# Altium schematic symbol library ethernet.SchLib: 51 symbols (part 1 of 2)
Pins are listed as number, name and electrical type; pins without a type are passive.

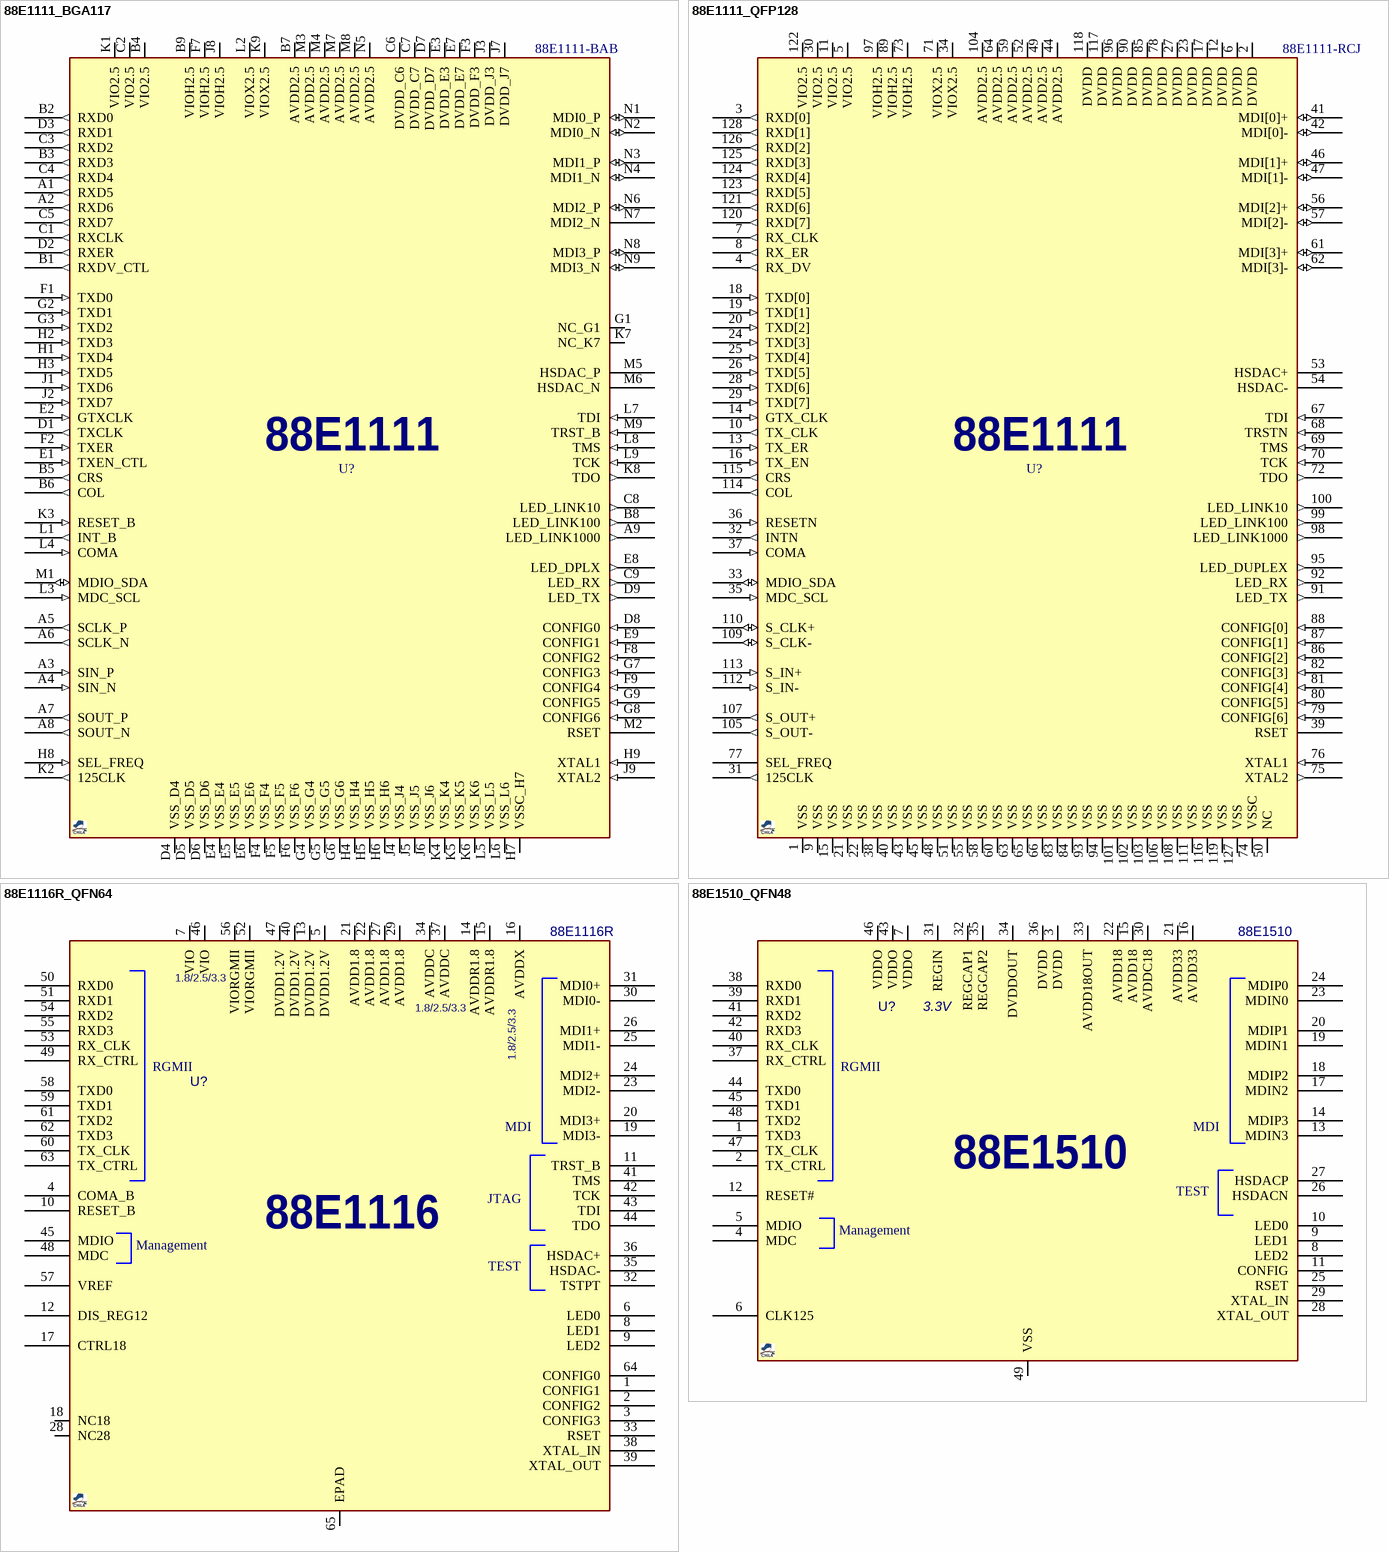
[diagram p0: symbols 88E1111_BGA117 to 88E1510_QFN48]

## 88E1111_BGA117
designator U?, comment 88E1111-BAB
Ethernet Transceiver, Gigabit, 10/100/1000, GMII, RGMII, SGMII; MANF: MARVELL; MANF_P#: 88E1111-B2-BAB1I000, 88E1111-B2-BAB1C000; PARAM2: 2.5VIO, 2.5VDD, 1~1.2DVDD; PARAM: 10/100/1000, GMII, RGMII, SGMII; PRICE: 45$; VALUE: 88E1111-BAB
footprint BGA100_117_10X14 (BGA, 117-Leads, Body 10x14mm, Pitch 1mm)
pins: A1 RXD5 (out), A2 RXD6 (out), A3 SIN_P (in), A4 SIN_N (in), A5 SCLK_P (out), A6 SCLK_N (out), A7 SOUT_P (out), A8 SOUT_N (out), A9 LED_LINK1000 (out), B1 RXDV_CTL (out), B2 RXD0 (out), B3 RXD3 (out), B4 VIO2.5, B5 CRS (out), B6 COL (out), B7 AVDD2.5, B8 LED_LINK100 (out), B9 VIOH2.5, C1 RXCLK (out), C2 VIO2.5, C3 RXD2 (out), C4 RXD4 (out), C5 RXD7 (out), C6 DVDD_C6, C7 DVDD_C7, C8 LED_LINK10 (out), C9 LED_RX (out), D1 TXCLK (out), D2 RXER (out), D3 RXD1 (out), D4 VSS_D4, D5 VSS_D5, D6 VSS_D6, D7 DVDD_D7, D8 CONFIG0 (in), D9 LED_TX (out), E1 TXEN_CTL (in), E2 GTXCLK (in), E3 DVDD_E3, E4 VSS_E4, E5 VSS_E5, E6 VSS_E6, E7 DVDD_E7, E8 LED_DPLX (out), E9 CONFIG1 (in), F1 TXD0 (in), F2 TXER (in), F3 DVDD_F3, F4 VSS_F4, F5 VSS_F5, F6 VSS_F6, F7 VIOH2.5, F8 CONFIG2 (in), F9 CONFIG4 (in), G1 NC_G1, G2 TXD1 (in), G3 TXD2 (in), G4 VSS_G4, G5 VSS_G5, G6 VSS_G6, G7 CONFIG3 (in), G8 CONFIG6 (in), G9 CONFIG5 (in), H1 TXD4 (in), H2 TXD3 (in), H3 TXD5 (in), H4 VSS_H4, H5 VSS_H5, H6 VSS_H6, H7 VSSC_H7, H8 SEL_FREQ (in), H9 XTAL1 (in), J1 TXD6 (in), J2 TXD7 (in), J3 DVDD_J3, J4 VSS_J4, J5 VSS_J5, J6 VSS_J6, J7 DVDD_J7, J8 VIOH2.5, J9 XTAL2 (in), K1 VIO2.5, K2 125CLK (out), K3 RESET_B (in), K4 VSS_K4, K5 VSS_K5, K6 VSS_K6, K7 NC_K7, K8 TDO (out), K9 VIOX2.5, L1 INT_B (out), L2 VIOX2.5, L3 MDC_SCL (in), L4 COMA (in), L5 VSS_L5, L6 VSS_L6, L7 TDI (in), L8 TMS (in), L9 TCK (in), M1 MDIO_SDA (io), M2 RSET, M3 AVDD2.5, M4 AVDD2.5, M5 HSDAC_P, M6 HSDAC_N, M7 AVDD2.5, M8 AVDD2.5, M9 TRST_B (in), N1 MDI0_P (io), N2 MDI0_N (io), N3 MDI1_P (io), N4 MDI1_N (io), N5 AVDD2.5, N6 MDI2_P (io), N7 MDI2_N, N8 MDI3_P (io), N9 MDI3_N (io)
text: 88E1111

## 88E1111_QFP128
designator U?, comment 88E1111-RCJ
Ethernet Transceiver, Gigabit, 10/100/1000, GMII, RGMII, SGMII; MANF: MARVELL; MANF_P#: 88E1111-XX-RCJ; PARAM2: 2.5VIO, 2.5VDD, 1~1.2DVDD; PARAM: 10/100/1000, GMII, RGMII, SGMII; PRICE: 20$; VALUE: 88E1111-RCJ
footprint QFG50_128 (128-Leads, Body 20X14mm, Pitch 0.50mm)
pins: 1 VSS (power), 2 DVDD (power), 3 RXD[0] (out), 4 RX_DV (out), 5 VIO2.5 (power), 6 DVDD (power), 7 RX_CLK (out), 8 RX_ER (out), 9 VSS (power), 10 TX_CLK (out), 11 VIO2.5 (power), 12 DVDD (power), 13 TX_ER (in), 14 GTX_CLK (in), 15 VSS (power), 16 TX_EN (in), 17 DVDD (power), 18 TXD[0] (in), 19 TXD[1] (in), 20 TXD[2] (in), 21 VSS (power), 22 VSS (power), 23 DVDD (power), 24 TXD[3] (in), 25 TXD[4] (in), 26 TXD[5] (in), 27 DVDD (power), 28 TXD[6] (in), 29 TXD[7] (in), 30 VIO2.5 (power), 31 125CLK (out), 32 INTN (out), 33 MDIO_SDA (io), 34 VIOX2.5 (power), 35 MDC_SCL (in), 36 RESETN (in), 37 COMA (in), 38 VSS (power), 39 RSET, 40 VSS (power), 41 MDI[0]+ (io), 42 MDI[0]- (io), 43 VSS (power), 44 AVDD2.5 (power), 45 VSS (power), 46 MDI[1]+ (io), 47 MDI[1]- (io), 48 VSS (power), 49 AVDD2.5 (power), 50 NC, 51 VSS (power), 52 AVDD2.5 (power), 53 HSDAC+, 54 HSDAC-, 55 VSS (power), 56 MDI[2]+ (io), 57 MDI[2]- (io), 58 VSS (power), 59 AVDD2.5 (power), 60 VSS (power), 61 MDI[3]+ (io), 62 MDI[3]- (io), 63 VSS (power), 64 AVDD2.5 (power), 65 VSS (power), 66 VSS (power), 67 TDI (in), 68 TRSTN (in), 69 TMS (in), 70 TCK (in), 71 VIOX2.5 (power), 72 TDO (out), 73 VIOH2.5 (power), 74 VSSC (power), 75 XTAL2 (out), 76 XTAL1 (in), 77 SEL_FREQ, 78 DVDD (power), 79 CONFIG[6] (in), 80 CONFIG[5] (in), 81 CONFIG[4] (in), 82 CONFIG[3] (in), 83 VSS (power), 84 VSS (power), 85 DVDD (power), 86 CONFIG[2] (in), 87 CONFIG[1] (in), 88 CONFIG[0] (in), 89 VIOH2.5 (power), 90 DVDD (power), 91 LED_TX (out), 92 LED_RX (out), 93 VSS (power), 94 VSS (power), 95 LED_DUPLEX (out), 96 DVDD (power), 97 VIOH2.5 (power), 98 LED_LINK1000 (out), 99 LED_LINK100 (out), 100 LED_LINK10 (out), 101 VSS (power), 102 VSS (power), 103 VSS (power), 104 AVDD2.5 (power), 105 S_OUT- (out), 106 VSS (power), 107 S_OUT+ (out), 108 VSS (power), 109 S_CLK- (io), 110 S_CLK+ (io), 111 VSS (power), 112 S_IN- (in), 113 S_IN+ (in), 114 COL (out), 115 CRS (out), 116 VSS (power), 117 DVDD (power), 118 DVDD (power), 119 VSS (power), 120 RXD[7] (out), 121 RXD[6] (out), 122 VIO2.5 (power), 123 RXD[5] (out), 124 RXD[4] (out), 125 RXD[3] (out), 126 RXD[2] (out), 127 VSS (power), 128 RXD[1] (out)
text: 88E1111

## 88E1116R_QFN64
designator U?, comment 88E1116R
Ethernet Transceiver, Gigabit, RGMII; MANF: MARVELL; DESC: DESCRIPTION; DIST#: _; MANF_P#: 88E1116RA0-NNC1C000; PARAM2: 1.8/2.5/3.3VIO,; ASSEMBLY: ASSEMBLY; PRICE: PRICE; VALUE: 88E1116R
footprint QFN50_64T (LFCSP_VQ, MO-220-VMMD-4, MO-220-WNJR-5(JEDEC), RGC S-PQFP-N64 (TI), 9X9mm, 0.5mm)
pins: 1 CONFIG1, 2 CONFIG2, 3 CONFIG3, 4 COMA_B, 5 DVDD1.2V, 6 LED0, 7 VIO, 8 LED1, 9 LED2, 10 RESET_B, 11 TRST_B, 12 DIS_REG12, 13 DVDD1.2V, 14 AVDDR1.8, 15 AVDDR1.8, 16 AVDDX, 17 CTRL18, 18 NC18, 19 MDI3-, 20 MDI3+, 21 AVDD1.8, 22 AVDD1.8, 23 MDI2-, 24 MDI2+, 25 MDI1-, 26 MDI1+, 27 AVDD1.8, 28 NC28, 29 AVDD1.8, 30 MDI0-, 31 MDI0+, 32 TSTPT, 33 RSET, 34 AVDDC, 35 HSDAC-, 36 HSDAC+, 37 AVDDC, 38 XTAL_IN, 39 XTAL_OUT, 40 DVDD1.2V, 41 TMS, 42 TCK, 43 TDI, 44 TDO, 45 MDIO, 46 VIO, 47 DVDD1.2V, 48 MDC, 49 RX_CTRL, 50 RXD0, 51 RXD1, 52 VIORGMII, 53 RX_CLK, 54 RXD2, 55 RXD3, 56 VIORGMII, 57 VREF, 58 TXD0, 59 TXD1, 60 TX_CLK, 61 TXD2, 62 TXD3, 63 TX_CTRL, 64 CONFIG0, 65 EPAD
text: 1.8/2.5/3.3; RGMII; MDI; JTAG; 88E1116; Management; TEST

## 88E1510_QFN48
designator U?, comment 88E1510
Ethernet Transceiver, Gigabit, RGMII; MANF: MARVELL; PARAM: Commercial/Industrial; DESC: DESCRIPTION; DIST#: _; PARAM2: 2.5/3.3VIO,; ASSEMBLY: ASSEMBLY; PRICE: PRICE; MANF_P#: 88E1510; VALUE: 88E1510
footprint QFN50_48T (CP-48 (Analog Device),, MO-220-VKKD-2(JEDEC), RGZ S-PQFP-N48, S-PWQFN-N48(TI), 7X7mm, 0.5mm)
pins: 1 TXD3, 2 TX_CTRL, 3 DVDD, 4 MDC, 5 MDIO, 6 CLK125, 7 VDDO, 8 LED2, 9 LED1, 10 LED0, 11 CONFIG, 12 RESET#, 13 MDIN3, 14 MDIP3, 15 AVDD18, 16 AVDD33, 17 MDIN2, 18 MDIP2, 19 MDIN1, 20 MDIP1, 21 AVDD33, 22 AVDD18, 23 MDIN0, 24 MDIP0, 25 RSET, 26 HSDACN, 27 HSDACP, 28 XTAL_OUT, 29 XTAL_IN, 30 AVDDC18, 31 REGIN, 32 REGCAP1, 33 AVDD18OUT, 34 DVDDOUT, 35 REGCAP2, 36 DVDD, 37 RX_CTRL, 38 RXD0, 39 RXD1, 40 RX_CLK, 41 RXD2, 42 RXD3, 43 VDDO, 44 TXD0, 45 TXD1, 46 VDDO, 47 TX_CLK, 48 TXD2, 49 VSS
text: 3.3V; RGMII; MDI; TEST; Management

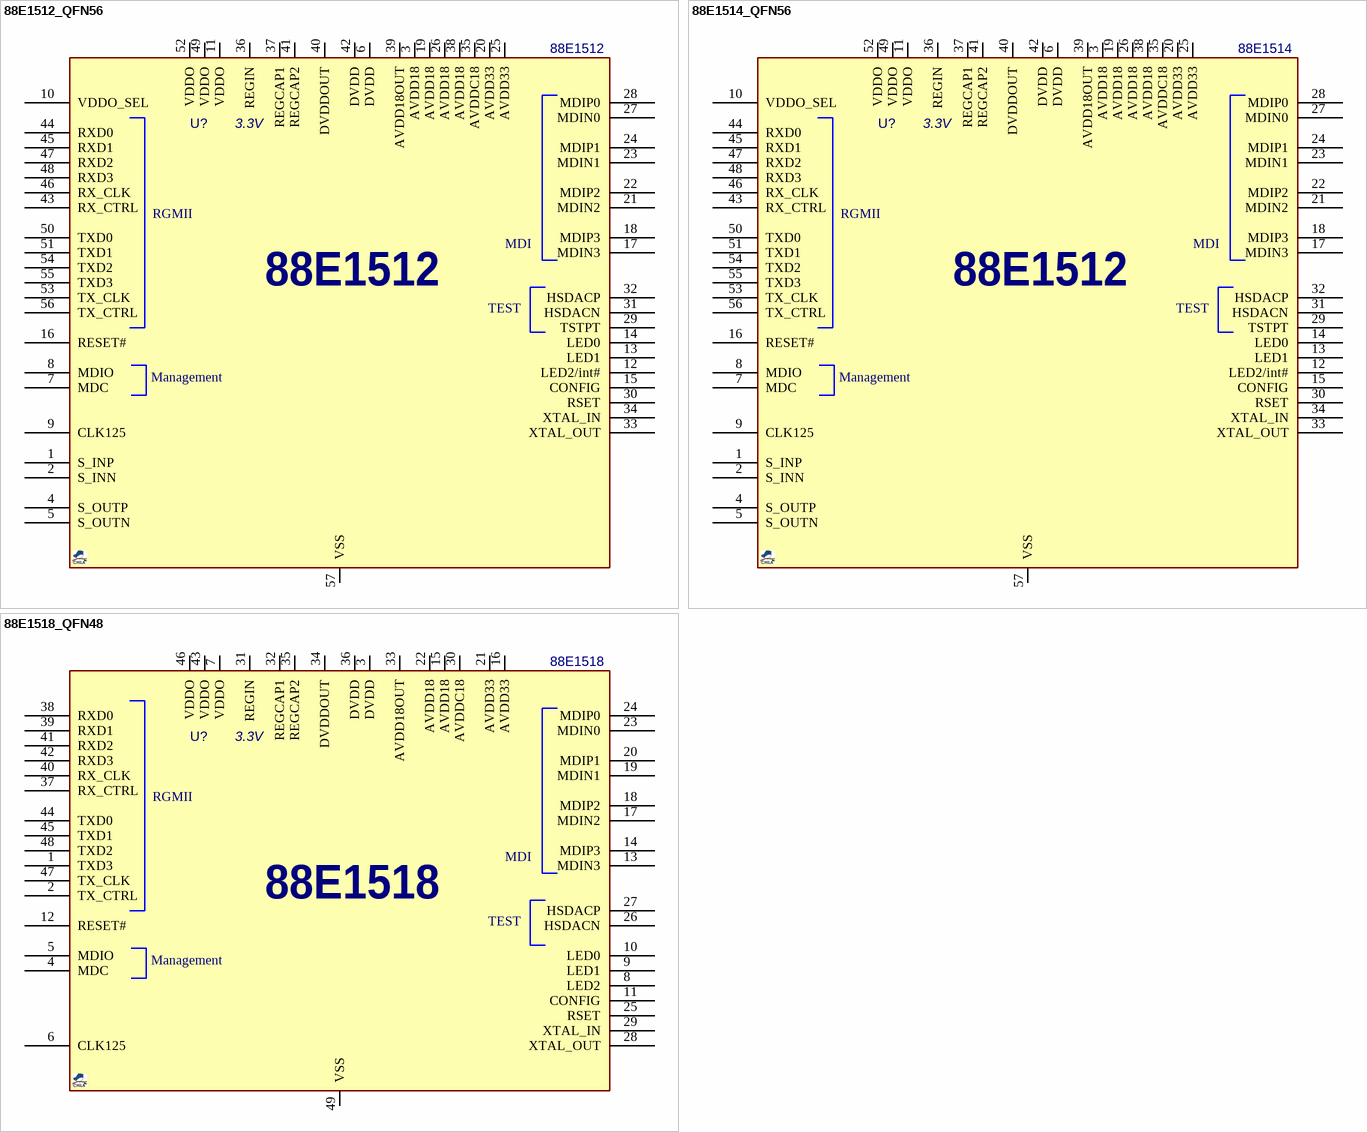
[diagram p1: symbols 88E1512_QFN56 to 88E1518_QFN48]

## 88E1512_QFN56
designator U?, comment 88E1512
Ethernet Transceiver, Gigabit, RGMII/SGMII; MANF: MARVELL; PARAM: Commercial; DESC: DESCRIPTION; DIST#: _; PARAM2: 1.8/2.5/3.3VIO,; ASSEMBLY: ASSEMBLY; PRICE: PRICE; MANF_P#: 88E1512; VALUE: 88E1512
footprint QFN50_56T (QFN56, pitch: 0.5mm, 8x8mm)
pins: 1 S_INP, 2 S_INN, 3 AVDD18, 4 S_OUTP, 5 S_OUTN, 6 DVDD, 7 MDC, 8 MDIO, 9 CLK125, 10 VDDO_SEL, 11 VDDO, 12 LED2/int#, 13 LED1, 14 LED0, 15 CONFIG, 16 RESET#, 17 MDIN3, 18 MDIP3, 19 AVDD18, 20 AVDD33, 21 MDIN2, 22 MDIP2, 23 MDIN1, 24 MDIP1, 25 AVDD33, 26 AVDD18, 27 MDIN0, 28 MDIP0, 29 TSTPT, 30 RSET, 31 HSDACN, 32 HSDACP, 33 XTAL_OUT, 34 XTAL_IN, 35 AVDDC18, 36 REGIN, 37 REGCAP1, 38 AVDD18, 39 AVDD18OUT, 40 DVDDOUT, 41 REGCAP2, 42 DVDD, 43 RX_CTRL, 44 RXD0, 45 RXD1, 46 RX_CLK, 47 RXD2, 48 RXD3, 49 VDDO, 50 TXD0, 51 TXD1, 52 VDDO, 53 TX_CLK, 54 TXD2, 55 TXD3, 56 TX_CTRL, 57 VSS
text: 3.3V; RGMII; MDI; TEST; Management

## 88E1514_QFN56
designator U?, comment 88E1514
Ethernet Transceiver, Gigabit, RGMII/SGMII; MANF: MARVELL; PARAM: Commercial/Industrial; DESC: DESCRIPTION; DIST#: _; PARAM2: 1.8/2.5/3.3VIO,; ASSEMBLY: ASSEMBLY; PRICE: PRICE; MANF_P#: 88E1514; VALUE: 88E1514
footprint QFN50_56T (QFN56, pitch: 0.5mm, 8x8mm)
pins: 1 S_INP, 2 S_INN, 3 AVDD18, 4 S_OUTP, 5 S_OUTN, 6 DVDD, 7 MDC, 8 MDIO, 9 CLK125, 10 VDDO_SEL, 11 VDDO, 12 LED2/int#, 13 LED1, 14 LED0, 15 CONFIG, 16 RESET#, 17 MDIN3, 18 MDIP3, 19 AVDD18, 20 AVDD33, 21 MDIN2, 22 MDIP2, 23 MDIN1, 24 MDIP1, 25 AVDD33, 26 AVDD18, 27 MDIN0, 28 MDIP0, 29 TSTPT, 30 RSET, 31 HSDACN, 32 HSDACP, 33 XTAL_OUT, 34 XTAL_IN, 35 AVDDC18, 36 REGIN, 37 REGCAP1, 38 AVDD18, 39 AVDD18OUT, 40 DVDDOUT, 41 REGCAP2, 42 DVDD, 43 RX_CTRL, 44 RXD0, 45 RXD1, 46 RX_CLK, 47 RXD2, 48 RXD3, 49 VDDO, 50 TXD0, 51 TXD1, 52 VDDO, 53 TX_CLK, 54 TXD2, 55 TXD3, 56 TX_CTRL, 57 VSS
text: 3.3V; RGMII; MDI; 88E1512; TEST; Management

## 88E1518_QFN48
designator U?, comment 88E1518
Ethernet Transceiver, Gigabit, RGMII; MANF: MARVELL; PARAM: Commercial; DESC: DESCRIPTION; DIST#: _; PARAM2: 1.8VIO,; ASSEMBLY: ASSEMBLY; PRICE: PRICE; MANF_P#: 88E1518; VALUE: 88E1518
footprint QFN50_48T (CP-48 (Analog Device),, MO-220-VKKD-2(JEDEC), RGZ S-PQFP-N48, S-PWQFN-N48(TI), 7X7mm, 0.5mm)
pins: 1 TXD3, 2 TX_CTRL, 3 DVDD, 4 MDC, 5 MDIO, 6 CLK125, 7 VDDO, 8 LED2, 9 LED1, 10 LED0, 11 CONFIG, 12 RESET#, 13 MDIN3, 14 MDIP3, 15 AVDD18, 16 AVDD33, 17 MDIN2, 18 MDIP2, 19 MDIN1, 20 MDIP1, 21 AVDD33, 22 AVDD18, 23 MDIN0, 24 MDIP0, 25 RSET, 26 HSDACN, 27 HSDACP, 28 XTAL_OUT, 29 XTAL_IN, 30 AVDDC18, 31 REGIN, 32 REGCAP1, 33 AVDD18OUT, 34 DVDDOUT, 35 REGCAP2, 36 DVDD, 37 RX_CTRL, 38 RXD0, 39 RXD1, 40 RX_CLK, 41 RXD2, 42 RXD3, 43 VDDO, 44 TXD0, 45 TXD1, 46 VDDO, 47 TX_CLK, 48 TXD2, 49 VSS
text: 3.3V; RGMII; MDI; TEST; Management

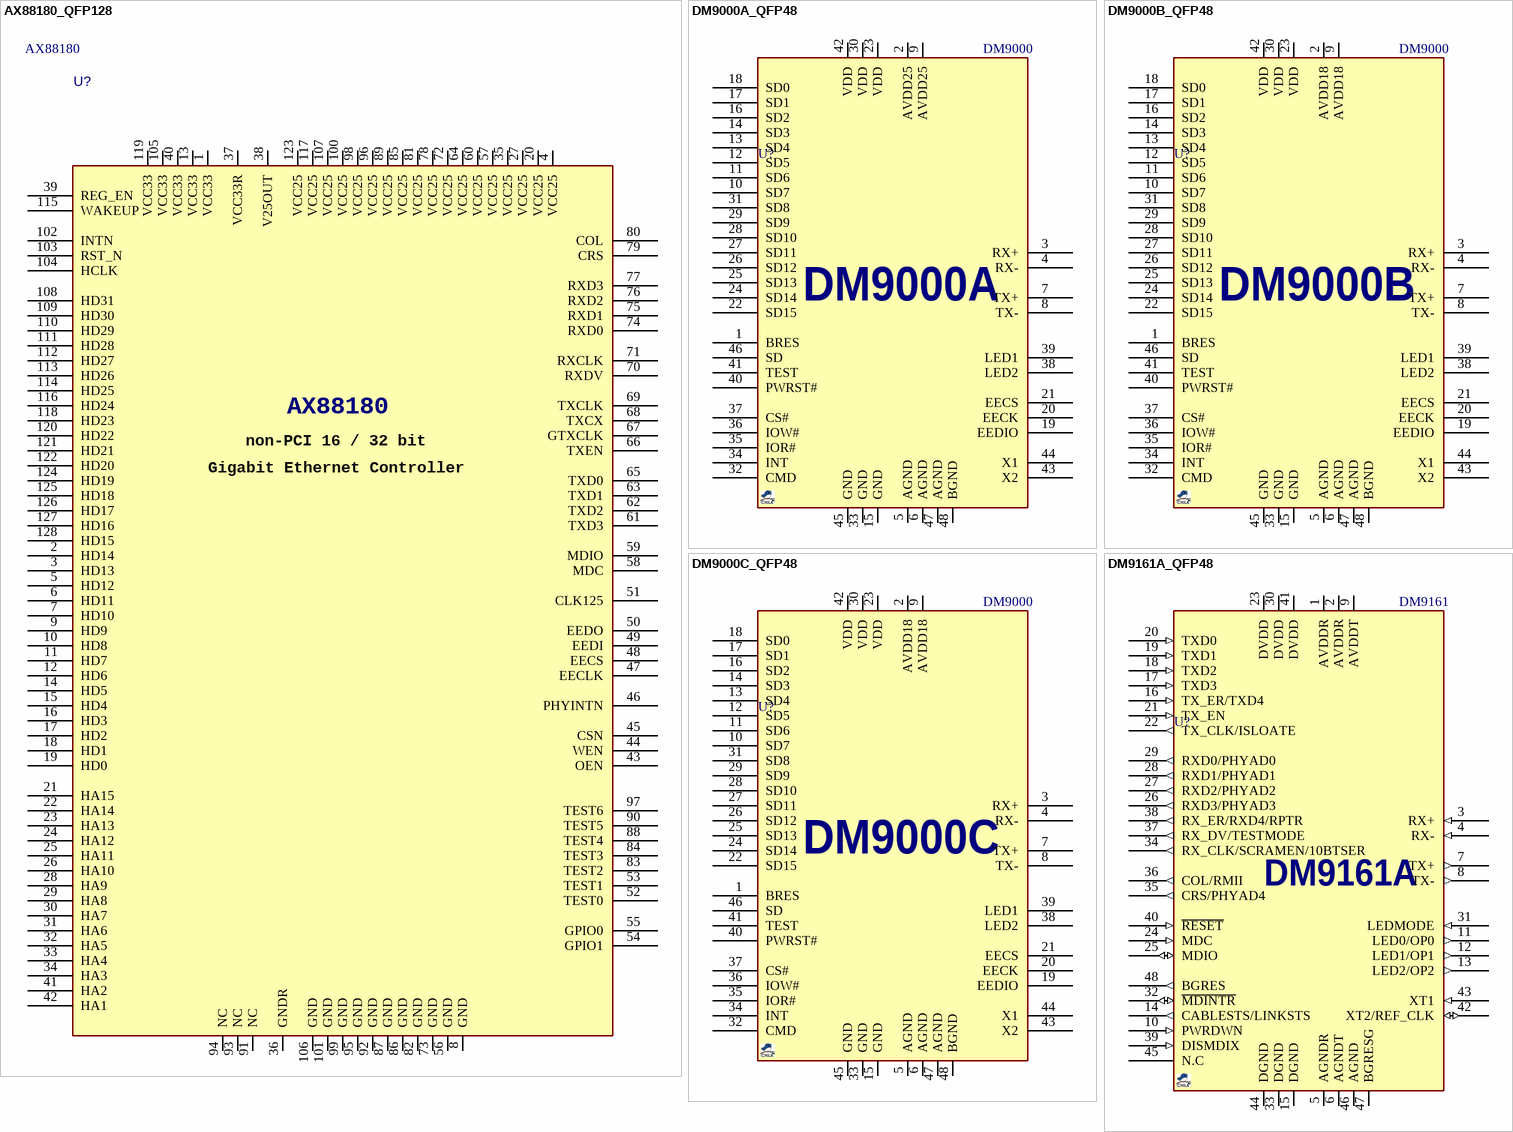
[diagram p2: symbols AX88180_QFP128 to DM9161A_QFP48]

## AX88180_QFP128
designator U?, comment AX88180
Ethernet Controller, 10/100/1000, SRAM-Like 32Bit; MANF: ASIX; MANF_P#: AX88180; PRICE: 7$; VALUE: AX88180
footprint QFG40_128 (LQFP128, PQFP-128, MS-026(JEDEC), 14X14mm, 0.4mm)
pins: 1 VCC33, 2 HD14, 3 HD13, 4 VCC25, 5 HD12, 6 HD11, 7 HD10, 8 GND, 9 HD9, 10 HD8, 11 HD7, 12 HD6, 13 VCC33, 14 HD5, 15 HD4, 16 HD3, 17 HD2, 18 HD1, 19 HD0, 20 VCC25, 21 HA15, 22 HA14, 23 HA13, 24 HA12, 25 HA11, 26 HA10, 27 VCC25, 28 HA9, 29 HA8, 30 HA7, 31 HA6, 32 HA5, 33 HA4, 34 HA3, 35 VCC25, 36 GNDR, 37 VCC33R, 38 V25OUT, 39 REG_EN, 40 VCC33, 41 HA2, 42 HA1, 43 OEN, 44 WEN, 45 CSN, 46 PHYINTN, 47 EECLK, 48 EECS, 49 EEDI, 50 EEDO, 51 CLK125, 52 TEST0, 53 TEST1, 54 GPIO1, 55 GPIO0, 56 GND, 57 VCC25, 58 MDC, 59 MDIO, 60 VCC25, 61 TXD3, 62 TXD2, 63 TXD1, 64 VCC25, 65 TXD0, 66 TXEN, 67 GTXCLK, 68 TXCX, 69 TXCLK, 70 RXDV, 71 RXCLK, 72 VCC25, 73 GND, 74 RXD0, 75 RXD1, 76 RXD2, 77 RXD3, 78 VCC25, 79 CRS, 80 COL, 81 VCC25, 82 GND, 83 TEST2, 84 TEST3, 85 VCC25, 86 GND, 87 GND, 88 TEST4, 89 VCC25, 90 TEST5, 91 NC, 92 GND, 93 NC, 94 NC, 95 GND, 96 VCC25, 97 TEST6, 98 VCC25, 99 GND, 100 VCC25, 101 GND, 102 INTN, 103 RST_N, 104 HCLK, 105 VCC33, 106 GND, 107 VCC25, 108 HD31, 109 HD30, 110 HD29, 111 HD28, 112 HD27, 113 HD26, 114 HD25, 115 WAKEUP, 116 HD24, 117 VCC25, 118 HD23, 119 VCC33, 120 HD22, 121 HD21, 122 HD20, 123 VCC25, 124 HD19, 125 HD18, 126 HD17, 127 HD16, 128 HD15
text: non-PCI 16 / 32 bit; Gigabit Ethernet Controller

## DM9000A_QFP48
designator U?, comment DM9000
Ethernet Transceiver, 10/100, MII; MANF: DAVICOM; MANF_P#: DM9000A; PARAM2: 3.3VDD, AVDD2.5V, 3.3/5V IO; VALUE: DM9000
footprint QFG50_48 (LQFP48, PQFF, PQFG, TSQFP, 48-Leads, Body 7.00x7.00mm, Pitch 0.50mm)
pins: 1 BRES, 2 AVDD25, 3 RX+, 4 RX-, 5 AGND, 6 AGND, 7 TX+, 8 TX-, 9 AVDD25, 10 SD7, 11 SD6, 12 SD5, 13 SD4, 14 SD3, 15 GND, 16 SD2, 17 SD1, 18 SD0, 19 EEDIO, 20 EECK, 21 EECS, 22 SD15, 23 VDD, 24 SD14, 25 SD13, 26 SD12, 27 SD11, 28 SD10, 29 SD9, 30 VDD, 31 SD8, 32 CMD, 33 GND, 34 INT, 35 IOR#, 36 IOW#, 37 CS#, 38 LED2, 39 LED1, 40 PWRST#, 41 TEST, 42 VDD, 43 X2, 44 X1, 45 GND, 46 SD, 47 AGND, 48 BGND

## DM9000B_QFP48
designator U?, comment DM9000
Ethernet Transceiver, 10/100, MII; MANF: DAVICOM; MANF_P#: DM9000B; PARAM2: 3.3VDD, AVDD1.8V, 3.3/5V IO; VALUE: DM9000
footprint QFG50_48 (LQFP48, PQFF, PQFG, TSQFP, 48-Leads, Body 7.00x7.00mm, Pitch 0.50mm)
pins: 1 BRES, 2 AVDD18, 3 RX+, 4 RX-, 5 AGND, 6 AGND, 7 TX+, 8 TX-, 9 AVDD18, 10 SD7, 11 SD6, 12 SD5, 13 SD4, 14 SD3, 15 GND, 16 SD2, 17 SD1, 18 SD0, 19 EEDIO, 20 EECK, 21 EECS, 22 SD15, 23 VDD, 24 SD14, 25 SD13, 26 SD12, 27 SD11, 28 SD10, 29 SD9, 30 VDD, 31 SD8, 32 CMD, 33 GND, 34 INT, 35 IOR#, 36 IOW#, 37 CS#, 38 LED2, 39 LED1, 40 PWRST#, 41 TEST, 42 VDD, 43 X2, 44 X1, 45 GND, 46 SD, 47 AGND, 48 BGND

## DM9000C_QFP48
designator U?, comment DM9000
Ethernet Transceiver, 10/100, MII; MANF: DAVICOM; MANF_P#: DM9000C; PARAM2: 3.3VDD, AVDD1.8V, 3.3/5V IO; VALUE: DM9000
footprint QFG50_48 (LQFP48, PQFF, PQFG, TSQFP, 48-Leads, Body 7.00x7.00mm, Pitch 0.50mm)
pins: 1 BRES, 2 AVDD18, 3 RX+, 4 RX-, 5 AGND, 6 AGND, 7 TX+, 8 TX-, 9 AVDD18, 10 SD7, 11 SD6, 12 SD5, 13 SD4, 14 SD3, 15 GND, 16 SD2, 17 SD1, 18 SD0, 19 EEDIO, 20 EECK, 21 EECS, 22 SD15, 23 VDD, 24 SD14, 25 SD13, 26 SD12, 27 SD11, 28 SD10, 29 SD9, 30 VDD, 31 SD8, 32 CMD, 33 GND, 34 INT, 35 IOR#, 36 IOW#, 37 CS#, 38 LED2, 39 LED1, 40 PWRST#, 41 TEST, 42 VDD, 43 X2, 44 X1, 45 GND, 46 SD, 47 AGND, 48 BGND

## DM9161A_QFP48
designator U?, comment DM9161
Ethernet Transceiver, 10/100, MII; MANF: DAVICOM; MANF_P#: DM9161AEP; PARAM2: 3.3VDD, 3.3/5V IO; VALUE: DM9161
footprint QFG50_48 (LQFP48, PQFF, PQFG, TSQFP, 48-Leads, Body 7.00x7.00mm, Pitch 0.50mm)
pins: 1 AVDDR (power), 2 AVDDR (power), 3 RX+ (in), 4 RX- (in), 5 AGNDR (power), 6 AGNDT (power), 7 TX+ (out), 8 TX- (out), 9 AVDDT (power), 10 PWRDWN (in), 11 LED0/OP0 (out), 12 LED1/OP1 (out), 13 LED2/OP2 (out), 14 CABLESTS/LINKSTS (out), 15 DGND (power), 16 TX_ER/TXD4 (in), 17 TXD3 (in), 18 TXD2 (in), 19 TXD1 (in), 20 TXD0 (in), 21 TX_EN (in), 22 TX_CLK/ISLOATE (out), 23 DVDD (power), 24 MDC (in), 25 MDIO (io), 26 RXD3/PHYAD3 (out), 27 RXD2/PHYAD2 (out), 28 RXD1/PHYAD1 (out), 29 RXD0/PHYAD0 (out), 30 DVDD (power), 31 LEDMODE (in), 32 ~{MDINTR} (io), 33 DGND (power), 34 RX_CLK/SCRAMEN/10BTSER (out), 35 CRS/PHYAD4 (out), 36 COL/RMII (out), 37 RX_DV/TESTMODE (out), 38 RX_ER/RXD4/RPTR (out), 39 DISMDIX (in), 40 ~{RESET} (in), 41 DVDD (power), 42 XT2/REF_CLK (io), 43 XT1 (in), 44 DGND (power), 45 N.C, 46 AGND (power), 47 BGRESG (power), 48 BGRES (out)
text: DM9161A

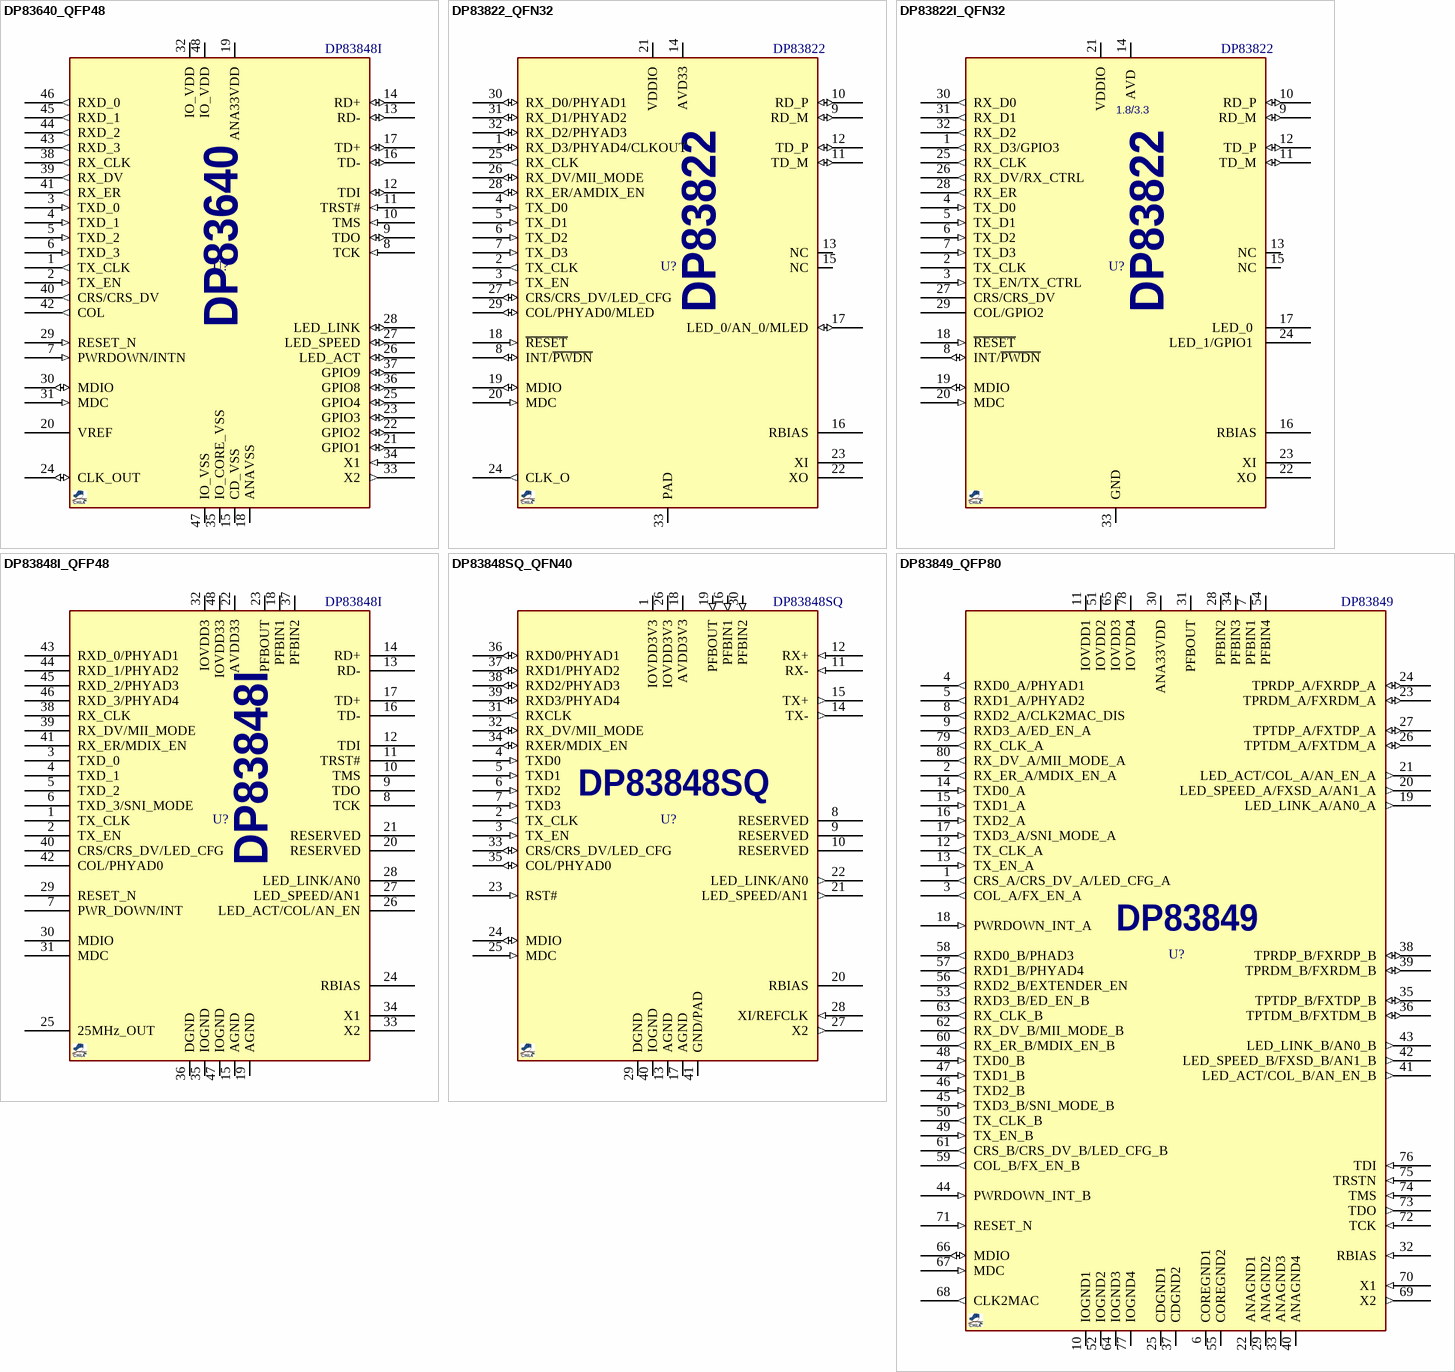
[diagram p3: symbols DP83640_QFP48 to DP83849_QFP80]

## DP83640_QFP48
designator U?, comment DP83848I
Ethernet Transceiver, 10/100, MII/RMII; MANF: Texas Instruments; MANF_P#: DP83848IV; PARAM2: 2.5/3.3VIO; PRICE: 5$; VALUE: DP83848I
footprint QFG50_48 (LQFP48, PQFF, PQFG, TSQFP, 48-Leads, Body 7.00x7.00mm, Pitch 0.50mm)
pins: 1 TX_CLK (out), 2 TX_EN (in), 3 TXD_0 (in), 4 TXD_1 (in), 5 TXD_2 (in), 6 TXD_3 (in), 7 PWRDOWN/INTN (in), 8 TCK (in), 9 TDO (io), 10 TMS (in), 11 TRST# (in), 12 TDI (io), 13 RD- (io), 14 RD+ (io), 15 CD_VSS (power), 16 TD- (io), 17 TD+ (io), 18 ANAVSS (power), 19 ANA33VDD (power), 20 VREF, 21 GPIO1 (io), 22 GPIO2 (io), 23 GPIO3 (io), 24 CLK_OUT (io), 25 GPIO4 (io), 26 LED_ACT (io), 27 LED_SPEED (io), 28 LED_LINK (io), 29 RESET_N (in), 30 MDIO (io), 31 MDC (in), 32 IO_VDD (power), 33 X2 (out), 34 X1 (in), 35 IO_CORE_VSS (power), 36 GPIO8 (io), 37 GPIO9 (io), 38 RX_CLK (out), 39 RX_DV (out), 40 CRS/CRS_DV (out), 41 RX_ER (out), 42 COL (out), 43 RXD_3 (out), 44 RXD_2 (out), 45 RXD_1 (out), 46 RXD_0 (out), 47 IO_VSS (power), 48 IO_VDD (power)
text: DP83640

## DP83822_QFN32
designator U?, comment DP83822
Ethernet Transceiver, 10/100, MII/RMII; MANF: Texas Instruments; MANF_P#: DP83822RHB; PARAM2: 1.8/2.5/3.3VIO; PRICE: -$; VALUE: DP83822
footprint QFN50_32T (QFN, 32, 5X5mm, 0.5mm)
pins: 1 RX_D3/PHYAD4/CLKOUT (io), 2 TX_CLK (out), 3 TX_EN (in), 4 TX_D0 (in), 5 TX_D1 (in), 6 TX_D2 (in), 7 TX_D3 (in), 8 INT/~{PWDN} (io), 9 RD_M (io), 10 RD_P (io), 11 TD_M (io), 12 TD_P (io), 13 NC, 14 AVD33 (power), 15 NC, 16 RBIAS, 17 LED_0/AN_0/MLED (io), 18 ~{RESET} (in), 19 MDIO (io), 20 MDC (in), 21 VDDIO (power), 22 XO, 23 XI, 24 CLK_O (out), 25 RX_CLK (out), 26 RX_DV/MII_MODE (io), 27 CRS/CRS_DV/LED_CFG (io), 28 RX_ER/AMDIX_EN (io), 29 COL/PHYAD0/MLED (io), 30 RX_D0/PHYAD1 (io), 31 RX_D1/PHYAD2 (io), 32 RX_D2/PHYAD3 (io), 33 PAD (power)

## DP83822I_QFN32
designator U?, comment DP83822
Ethernet Transceiver, 10/100, MII/RMII; MANF: Texas Instruments; MANF_P#: DP83822IRHB, DP83822IFRHB; PARAM2: 1.8/2.5/3.3VIO, 1.8/3.3AVDD; PARAM: -40~85°C; PRICE: 3.5$; VALUE: DP83822
footprint QFN50_32T (QFN, 32, 5X5mm, 0.5mm)
pins: 1 RX_D3/GPIO3  (out), 2 TX_CLK , 3 TX_EN/TX_CTRL  (in), 4 TX_D0  (in), 5 TX_D1  (in), 6 TX_D2  (in), 7 TX_D3  (in), 8 INT/~{PWDN} (io), 9 RD_M (io), 10 RD_P (io), 11 TD_M (io), 12 TD_P (io), 13 NC, 14 AVD , 15 NC, 16 RBIAS, 17 LED_0 , 18 ~{RESET} (in), 19 MDIO (io), 20 MDC (in), 21 VDDIO (power), 22 XO, 23 XI, 24 LED_1/GPIO1 , 25 RX_CLK  (out), 26 RX_DV/RX_CTRL  (out), 27 CRS/CRS_DV , 28 RX_ER  (out), 29 COL/GPIO2 , 30 RX_D0  (out), 31 RX_D1  (out), 32 RX_D2  (out), 33 GND 
text: 1.8/3.3

## DP83848I_QFP48
designator U?, comment DP83848I
Ethernet Transceiver, 10/100, MII/RMII; MANF: Texas Instruments; MANF_P#: DP83848IV; PRICE: 5$; VALUE: DP83848I
footprint QFG50_48 (LQFP48, PQFF, PQFG, TSQFP, 48-Leads, Body 7.00x7.00mm, Pitch 0.50mm)
pins: 1 TX_CLK, 2 TX_EN, 3 TXD_0, 4 TXD_1, 5 TXD_2, 6 TXD_3/SNI_MODE, 7 PWR_DOWN/INT, 8 TCK, 9 TDO, 10 TMS, 11 TRST#, 12 TDI, 13 RD-, 14 RD+, 15 AGND, 16 TD-, 17 TD+, 18 PFBIN1, 19 AGND, 20 RESERVED, 21 RESERVED, 22 AVDD33, 23 PFBOUT, 24 RBIAS, 25 25MHz_OUT, 26 LED_ACT/COL/AN_EN, 27 LED_SPEED/AN1, 28 LED_LINK/AN0, 29 RESET_N, 30 MDIO, 31 MDC, 32 IOVDD3, 33 X2, 34 X1, 35 IOGND, 36 DGND, 37 PFBIN2, 38 RX_CLK, 39 RX_DV/MII_MODE, 40 CRS/CRS_DV/LED_CFG, 41 RX_ER/MDIX_EN, 42 COL/PHYAD0, 43 RXD_0/PHYAD1, 44 RXD_1/PHYAD2, 45 RXD_2/PHYAD3, 46 RXD_3/PHYAD4, 47 IOGND, 48 IOVDD33

## DP83848SQ_QFN40
designator U?, comment DP83848SQ
Ethernet Transceiver, 10/100, MII/RMII; MANF: Texas Instruments; MANF_P#: DP83848HSQ, DP83848KSQ, DP83848TSQ, DP83848JSQ, DP83848MSQ; PRICE: 5$; VALUE: DP83848SQ
footprint QFN50_40T (PVQFN, QFN, 40-Leads, Body 6x6mm, Pitch 0.5mm)
pins: 1 IOVDD3V3 (power), 2 TX_CLK (out), 3 TX_EN (in), 4 TXD0 (in), 5 TXD1 (in), 6 TXD2 (in), 7 TXD3 (in), 8 RESERVED, 9 RESERVED, 10 RESERVED, 11 RX- (in), 12 RX+ (in), 13 AGND (power), 14 TX- (out), 15 TX+ (out), 16 PFBIN1 (in), 17 AGND (power), 18 AVDD3V3 (power), 19 PFBOUT (in), 20 RBIAS (power), 21 LED_SPEED/AN1 (out), 22 LED_LINK/AN0 (out), 23 RST# (in), 24 MDIO (io), 25 MDC (in), 26 IOVDD3V3 (power), 27 X2 (out), 28 XI/REFCLK (in), 29 DGND (power), 30 PFBIN2 (in), 31 RXCLK (out), 32 RX_DV/MII_MODE (io), 33 CRS/CRS_DV/LED_CFG (io), 34 RXER/MDIX_EN (io), 35 COL/PHYAD0 (io), 36 RXD0/PHYAD1 (io), 37 RXD1/PHYAD2 (io), 38 RXD2/PHYAD3 (io), 39 RXD3/PHYAD4 (io), 40 IOGND (power), 41 GND/PAD (power)

## DP83849_QFP80
designator U?, comment DP83849
Ethernet Transceiver, 10/100, DUAL MII/RMII; MANF: Texas Instruments; MANF_P#: DP83849I; PARAM2: 3.3VIO; PRICE: -$; VALUE: DP83849
footprint QFG50_80 (lqfp80, TFP-80C (Hitachi), 12.0x12.0mm, Pitch 0.5mm)
pins: 1 CRS_A/CRS_DV_A/LED_CFG_A (out), 2 RX_ER_A/MDIX_EN_A (out), 3 COL_A/FX_EN_A (out), 4 RXD0_A/PHYAD1 (out), 5 RXD1_A/PHYAD2 (out), 6 COREGND1 (power), 7 PFBIN1 (power), 8 RXD2_A/CLK2MAC_DIS (out), 9 RXD3_A/ED_EN_A (out), 10 IOGND1 (power), 11 IOVDD1 (power), 12 TX_CLK_A (out), 13 TX_EN_A (in), 14 TXD0_A (in), 15 TXD1_A (in), 16 TXD2_A (in), 17 TXD3_A/SNI_MODE_A (in), 18 PWRDOWN_INT_A (in), 19 LED_LINK_A/AN0_A (out), 20 LED_SPEED_A/FXSD_A/AN1_A (out), 21 LED_ACT/COL_A/AN_EN_A (out), 22 ANAGND1 (power), 23 TPRDM_A/FXRDM_A (io), 24 TPRDP_A/FXRDP_A (io), 25 CDGND1 (power), 26 TPTDM_A/FXTDM_A (io), 27 TPTDP_A/FXTDP_A (io), 28 PFBIN2 (power), 29 ANAGND2 (power), 30 ANA33VDD (power), 31 PFBOUT (power), 32 RBIAS (in), 33 ANAGND3 (power), 34 PFBIN3 (power), 35 TPTDP_B/FXTDP_B (io), 36 TPTDM_B/FXTDM_B (io), 37 CDGND2 (power), 38 TPRDP_B/FXRDP_B (io), 39 TPRDM_B/FXRDM_B (io), 40 ANAGND4 (power), 41 LED_ACT/COL_B/AN_EN_B (out), 42 LED_SPEED_B/FXSD_B/AN1_B (out), 43 LED_LINK_B/AN0_B (out), 44 PWRDOWN_INT_B (in), 45 TXD3_B/SNI_MODE_B (in), 46 TXD2_B (in), 47 TXD1_B (in), 48 TXD0_B (in), 49 TX_EN_B (in), 50 TX_CLK_B (out), 51 IOVDD2 (power), 52 IOGND2 (power), 53 RXD3_B/ED_EN_B (out), 54 PFBIN4 (power), 55 COREGND2 (power), 56 RXD2_B/EXTENDER_EN (out), 57 RXD1_B/PHYAD4 (out), 58 RXD0_B/PHAD3 (out), 59 COL_B/FX_EN_B (out), 60 RX_ER_B/MDIX_EN_B (out), 61 CRS_B/CRS_DV_B/LED_CFG_B (out), 62 RX_DV_B/MII_MODE_B (out), 63 RX_CLK_B (out), 64 IOGND3 (power), 65 IOVDD3 (power), 66 MDIO (io), 67 MDC (in), 68 CLK2MAC (out), 69 X2 (out), 70 X1 (in), 71 RESET_N (in), 72 TCK (in), 73 TDO (out), 74 TMS (in), 75 TRSTN (in), 76 TDI (in), 77 IOGND4 (power), 78 IOVDD4 (power), 79 RX_CLK_A (out), 80 RX_DV_A/MII_MODE_A (out)

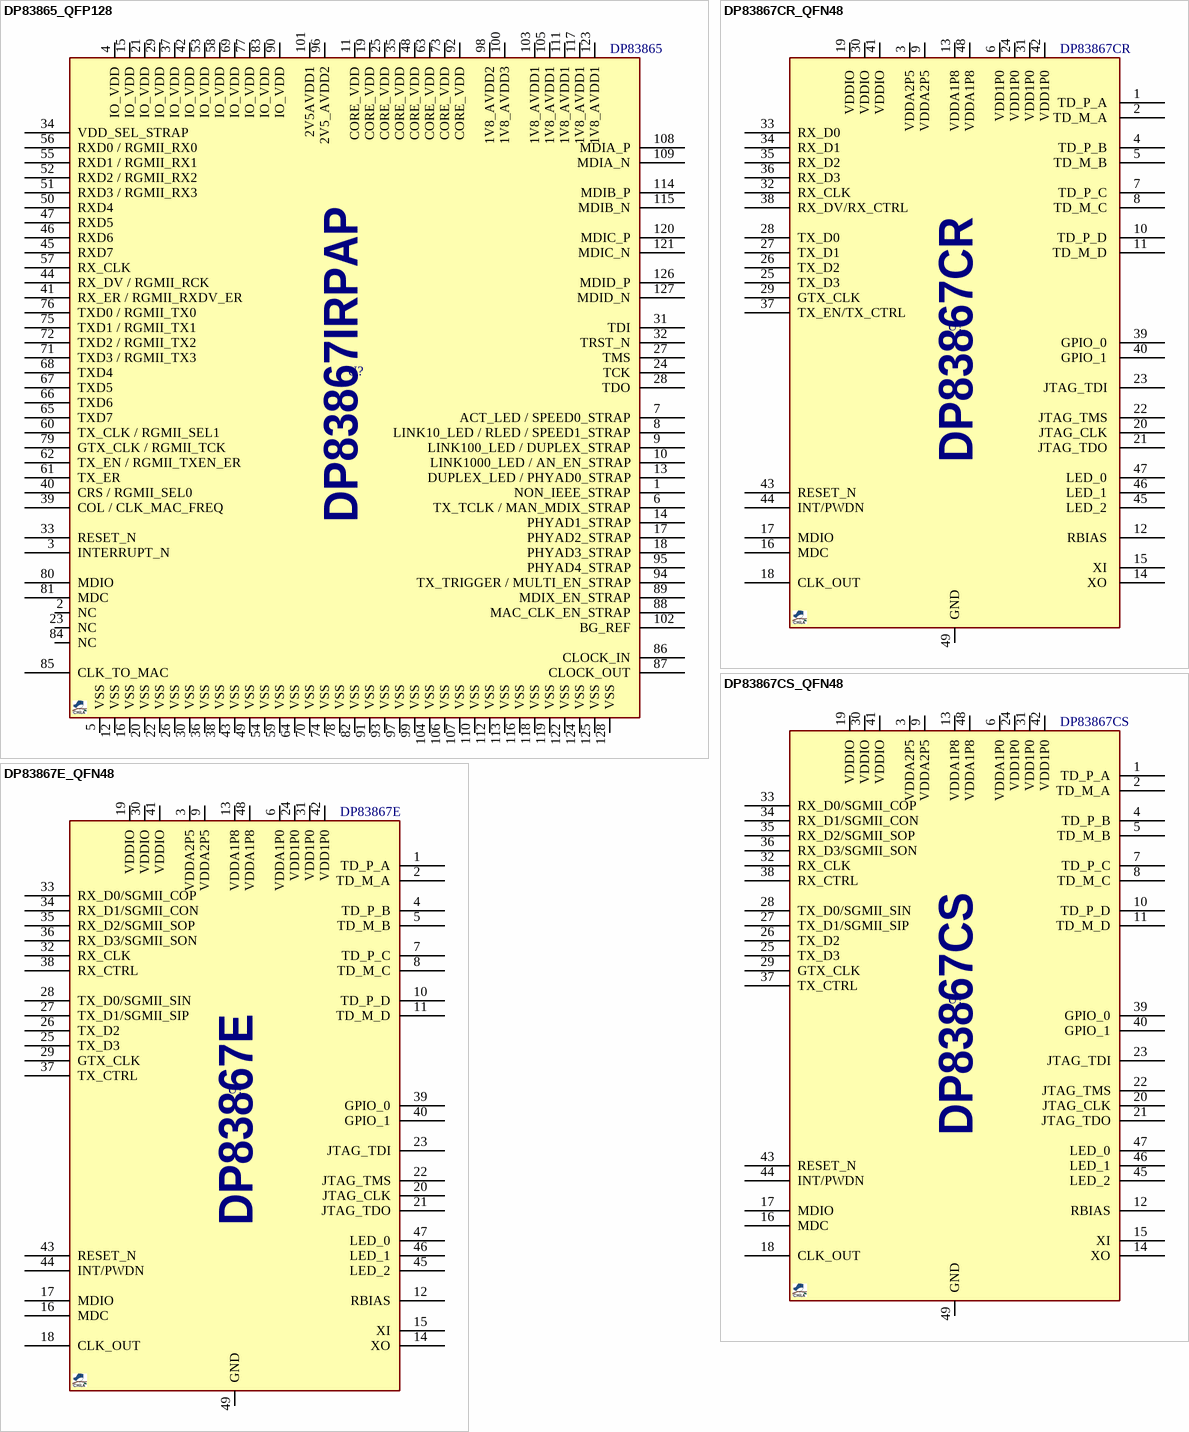
[diagram p4: symbols DP83865_QFP128 to DP83867E_QFN48]

## DP83865_QFP128
designator U?, comment DP83865
Ethernet Transceiver, 10/100/1000, GMII/RGMII; MANF: Texas Instruments; MANF_P#: DP83865DVH; PARAM2: 2.5/3.3VIO, 1.8VA; PRICE: -$; VALUE: DP83865
footprint QFG50_128 (128-Leads, Body 20X14mm, Pitch 0.50mm)
pins: 1 NON_IEEE_STRAP, 2 NC, 3 INTERRUPT_N, 4 IO_VDD (power), 5 VSS (power), 6 TX_TCLK / MAN_MDIX_STRAP, 7 ACT_LED / SPEED0_STRAP, 8 LINK10_LED / RLED / SPEED1_STRAP, 9 LINK100_LED / DUPLEX_STRAP, 10 LINK1000_LED / AN_EN_STRAP, 11 CORE_VDD (power), 12 VSS (power), 13 DUPLEX_LED / PHYAD0_STRAP, 14 PHYAD1_STRAP, 15 IO_VDD (power), 16 VSS (power), 17 PHYAD2_STRAP, 18 PHYAD3_STRAP, 19 CORE_VDD (power), 20 VSS (power), 21 IO_VDD (power), 22 VSS (power), 23 NC, 24 TCK, 25 CORE_VDD (power), 26 VSS (power), 27 TMS, 28 TDO, 29 IO_VDD (power), 30 VSS (power), 31 TDI, 32 TRST_N, 33 RESET_N, 34 VDD_SEL_STRAP, 35 CORE_VDD (power), 36 VSS (power), 37 IO_VDD (power), 38 VSS (power), 39 COL / CLK_MAC_FREQ, 40 CRS / RGMII_SEL0, 41 RX_ER / RGMII_RXDV_ER, 42 IO_VDD (power), 43 VSS (power), 44 RX_DV / RGMII_RCK, 45 RXD7, 46 RXD6, 47 RXD5, 48 CORE_VDD (power), 49 VSS (power), 50 RXD4, 51 RXD3 / RGMII_RX3, 52 RXD2 / RGMII_RX2, 53 IO_VDD (power), 54 VSS (power), 55 RXD1 / RGMII_RX1, 56 RXD0 / RGMII_RX0, 57 RX_CLK, 58 IO_VDD (power), 59 VSS (power), 60 TX_CLK / RGMII_SEL1, 61 TX_ER, 62 TX_EN / RGMII_TXEN_ER, 63 CORE_VDD (power), 64 VSS (power), 65 TXD7, 66 TXD6, 67 TXD5, 68 TXD4, 69 IO_VDD (power), 70 VSS (power), 71 TXD3 / RGMII_TX3, 72 TXD2 / RGMII_TX2, 73 CORE_VDD (power), 74 VSS (power), 75 TXD1 / RGMII_TX1, 76 TXD0 / RGMII_TX0, 77 IO_VDD (power), 78 VSS (power), 79 GTX_CLK / RGMII_TCK, 80 MDIO, 81 MDC, 82 VSS (power), 83 IO_VDD (power), 84 NC, 85 CLK_TO_MAC, 86 CLOCK_IN, 87 CLOCK_OUT, 88 MAC_CLK_EN_STRAP, 89 MDIX_EN_STRAP, 90 IO_VDD (power), 91 VSS (power), 92 CORE_VDD (power), 93 VSS (power), 94 TX_TRIGGER / MULTI_EN_STRAP, 95 PHYAD4_STRAP, 96 2V5_AVDD2 (power), 97 VSS (power), 98 1V8_AVDD2 (power), 99 VSS (power), 100 1V8_AVDD3 (power), 101 2V5AVDD1 (power), 102 BG_REF, 103 1V8_AVDD1 (power), 104 VSS (power), 105 1V8_AVDD1 (power), 106 VSS (power), 107 VSS (power), 108 MDIA_P, 109 MDIA_N, 110 VSS (power), 111 1V8_AVDD1 (power), 112 VSS (power), 113 VSS (power), 114 MDIB_P, 115 MDIB_N, 116 VSS (power), 117 1V8_AVDD1 (power), 118 VSS (power), 119 VSS (power), 120 MDIC_P, 121 MDIC_N, 122 VSS (power), 123 1V8_AVDD1 (power), 124 VSS (power), 125 VSS (power), 126 MDID_P, 127 MDID_N, 128 VSS (power)
text: DP83867IRPAP

## DP83867CR_QFN48
designator U?, comment DP83867CR
Ethernet Transceiver, 10/100/1000, RGMII; MANF: Texas Instruments; MANF_P#: DP83867CRRGZ; PARAM2: 1.8/2.5/3.3VIO,; PARAM: 0~70oC; PRICE: -$; VALUE: DP83867CR
footprint QFN50_48T (CP-48 (Analog Device),, MO-220-VKKD-2(JEDEC), RGZ S-PQFP-N48, S-PWQFN-N48(TI), 7X7mm, 0.5mm)
pins: 1 TD_P_A , 2 TD_M_A , 3 VDDA2P5 , 4 TD_P_B , 5 TD_M_B , 6 VDD1P0 , 7 TD_P_C , 8 TD_M_C , 9 VDDA2P5 , 10 TD_P_D , 11 TD_M_D , 12 RBIAS , 13 VDDA1P8 , 14 XO , 15 XI , 16 MDC , 17 MDIO , 18 CLK_OUT , 19 VDDIO , 20 JTAG_CLK , 21 JTAG_TDO , 22 JTAG_TMS , 23 JTAG_TDI , 24 VDD1P0 , 25 TX_D3 , 26 TX_D2 , 27 TX_D1 , 28 TX_D0 , 29 GTX_CLK , 30 VDDIO , 31 VDD1P0 , 32 RX_CLK , 33 RX_D0 , 34 RX_D1 , 35 RX_D2 , 36 RX_D3 , 37 TX_EN/TX_CTRL , 38 RX_DV/RX_CTRL, 39 GPIO_0 , 40 GPIO_1 , 41 VDDIO , 42 VDD1P0 , 43 RESET_N , 44 INT/PWDN , 45 LED_2 , 46 LED_1 , 47 LED_0 , 48 VDDA1P8 , 49 GND 

## DP83867CS_QFN48
designator U?, comment DP83867CS
Ethernet Transceiver, 10/100/1000, RGMII/SGMII; MANF: Texas Instruments; MANF_P#: DP83867CSRGZ; PARAM2: 1.8/2.5/3.3VIO,; PARAM: 0~70oC; PRICE: -$; VALUE: DP83867CS
footprint QFN50_48T (CP-48 (Analog Device),, MO-220-VKKD-2(JEDEC), RGZ S-PQFP-N48, S-PWQFN-N48(TI), 7X7mm, 0.5mm)
pins: 1 TD_P_A, 2 TD_M_A, 3 VDDA2P5, 4 TD_P_B, 5 TD_M_B, 6 VDDA1P0, 7 TD_P_C, 8 TD_M_C, 9 VDDA2P5, 10 TD_P_D, 11 TD_M_D, 12 RBIAS, 13 VDDA1P8, 14 XO, 15 XI, 16 MDC, 17 MDIO, 18 CLK_OUT, 19 VDDIO, 20 JTAG_CLK, 21 JTAG_TDO, 22 JTAG_TMS, 23 JTAG_TDI, 24 VDD1P0, 25 TX_D3, 26 TX_D2, 27 TX_D1/SGMII_SIP, 28 TX_D0/SGMII_SIN, 29 GTX_CLK, 30 VDDIO, 31 VDD1P0, 32 RX_CLK, 33 RX_D0/SGMII_COP, 34 RX_D1/SGMII_CON, 35 RX_D2/SGMII_SOP, 36 RX_D3/SGMII_SON, 37 TX_CTRL, 38 RX_CTRL, 39 GPIO_0, 40 GPIO_1, 41 VDDIO, 42 VDD1P0, 43 RESET_N, 44 INT/PWDN, 45 LED_2, 46 LED_1, 47 LED_0, 48 VDDA1P8, 49 GND

## DP83867E_QFN48
designator U?, comment DP83867E
Ethernet Transceiver, 10/100/1000, RGMII/SGMII; MANF: Texas Instruments; MANF_P#: DP83867ERGZ; PARAM2: 1.8/2.5/3.3VIO,; PARAM: -40~105oC; PRICE: 11$; VALUE: DP83867E
footprint QFN50_48T (CP-48 (Analog Device),, MO-220-VKKD-2(JEDEC), RGZ S-PQFP-N48, S-PWQFN-N48(TI), 7X7mm, 0.5mm)
pins: 1 TD_P_A, 2 TD_M_A, 3 VDDA2P5, 4 TD_P_B, 5 TD_M_B, 6 VDDA1P0, 7 TD_P_C, 8 TD_M_C, 9 VDDA2P5, 10 TD_P_D, 11 TD_M_D, 12 RBIAS, 13 VDDA1P8, 14 XO, 15 XI, 16 MDC, 17 MDIO, 18 CLK_OUT, 19 VDDIO, 20 JTAG_CLK, 21 JTAG_TDO, 22 JTAG_TMS, 23 JTAG_TDI, 24 VDD1P0, 25 TX_D3, 26 TX_D2, 27 TX_D1/SGMII_SIP, 28 TX_D0/SGMII_SIN, 29 GTX_CLK, 30 VDDIO, 31 VDD1P0, 32 RX_CLK, 33 RX_D0/SGMII_COP, 34 RX_D1/SGMII_CON, 35 RX_D2/SGMII_SOP, 36 RX_D3/SGMII_SON, 37 TX_CTRL, 38 RX_CTRL, 39 GPIO_0, 40 GPIO_1, 41 VDDIO, 42 VDD1P0, 43 RESET_N, 44 INT/PWDN, 45 LED_2, 46 LED_1, 47 LED_0, 48 VDDA1P8, 49 GND

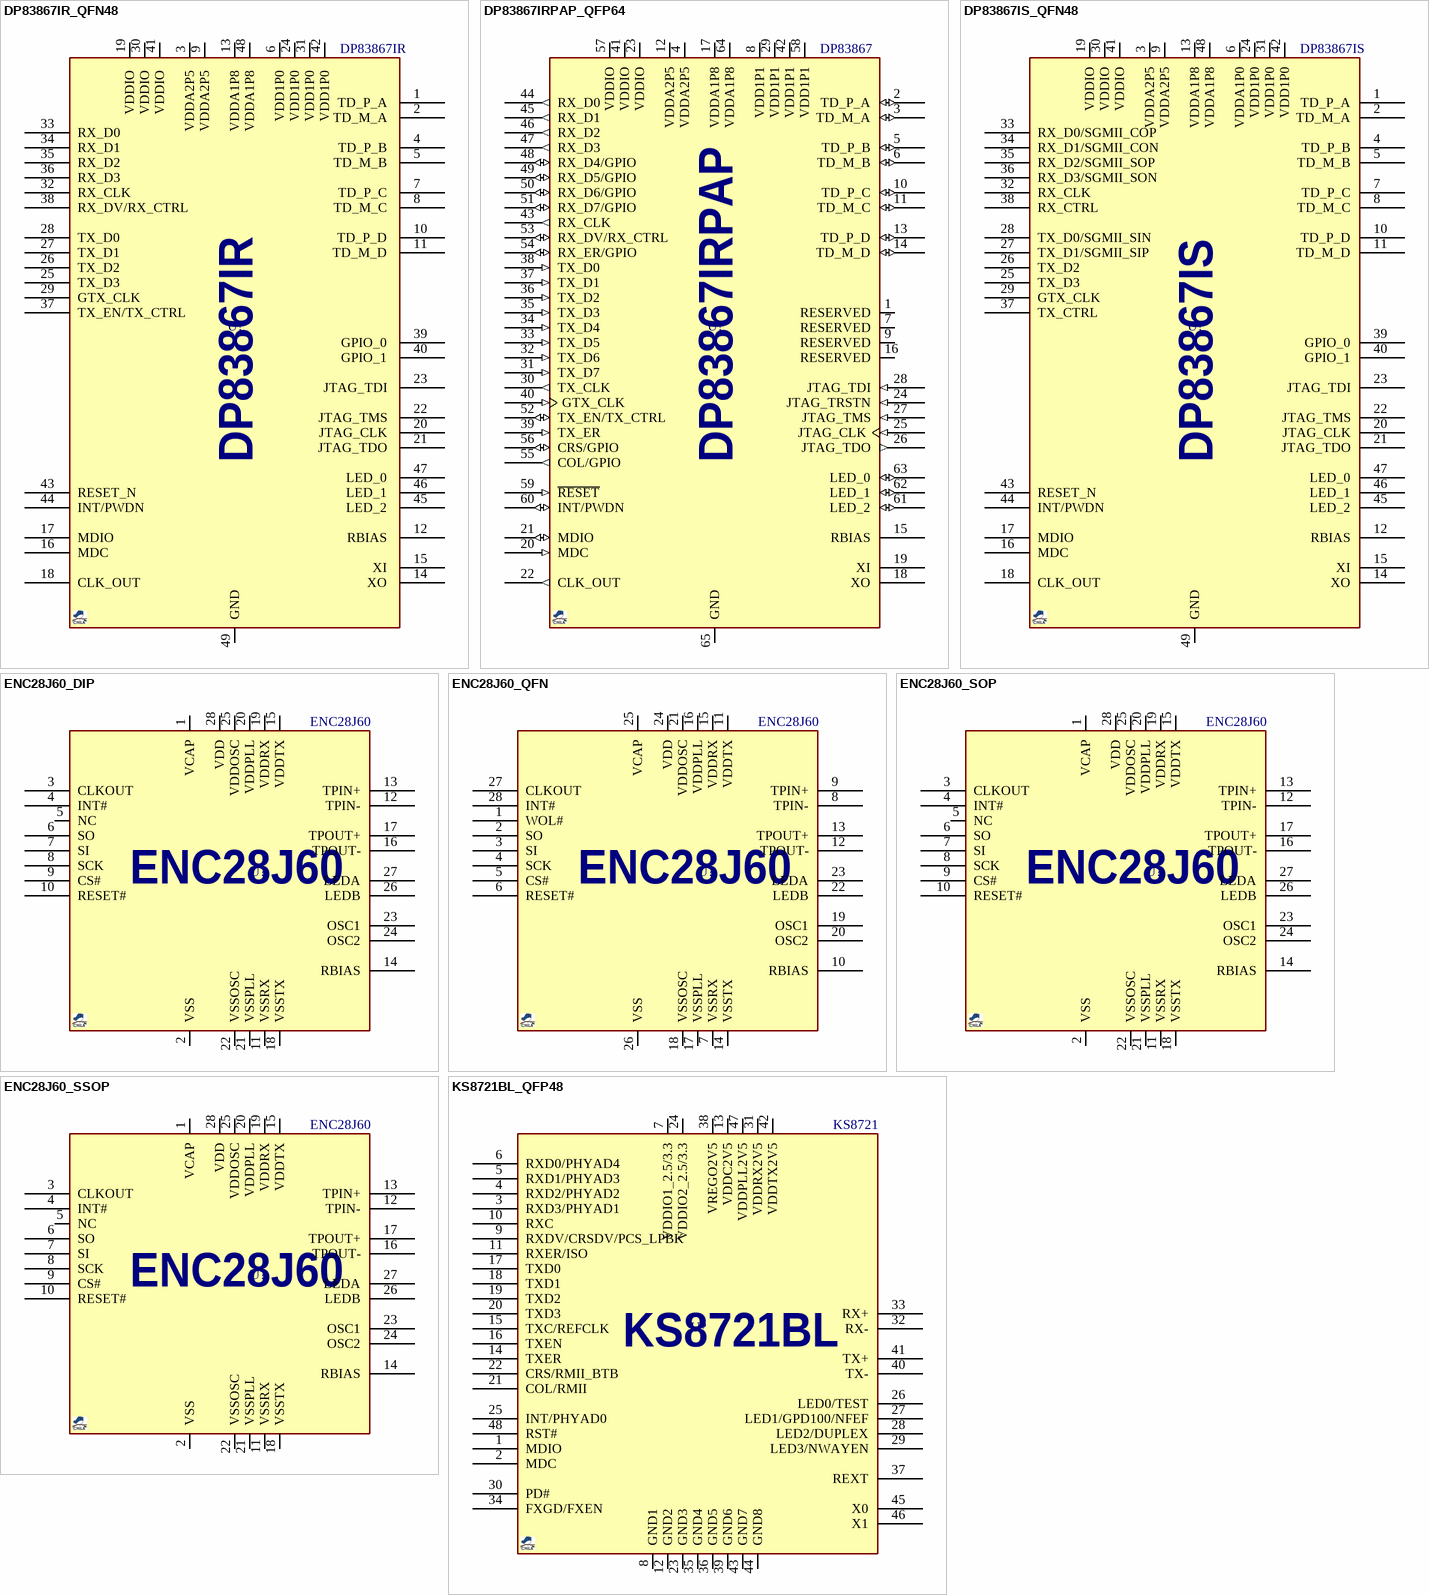
[diagram p5: symbols DP83867IR_QFN48 to KS8721BL_QFP48]

## DP83867IR_QFN48
designator U?, comment DP83867IR
Ethernet Transceiver, 10/100/1000, RGMII; MANF: Texas Instruments; MANF_P#: DP83867IRRGZ; PARAM2: 1.8/2.5/3.3VIO,; PARAM: -40~85oC; PRICE: 9$; VALUE: DP83867IR
footprint QFN50_48T (CP-48 (Analog Device),, MO-220-VKKD-2(JEDEC), RGZ S-PQFP-N48, S-PWQFN-N48(TI), 7X7mm, 0.5mm)
pins: 1 TD_P_A , 2 TD_M_A , 3 VDDA2P5 , 4 TD_P_B , 5 TD_M_B , 6 VDD1P0 , 7 TD_P_C , 8 TD_M_C , 9 VDDA2P5 , 10 TD_P_D , 11 TD_M_D , 12 RBIAS , 13 VDDA1P8 , 14 XO , 15 XI , 16 MDC , 17 MDIO , 18 CLK_OUT , 19 VDDIO , 20 JTAG_CLK , 21 JTAG_TDO , 22 JTAG_TMS , 23 JTAG_TDI , 24 VDD1P0 , 25 TX_D3 , 26 TX_D2 , 27 TX_D1 , 28 TX_D0 , 29 GTX_CLK , 30 VDDIO , 31 VDD1P0 , 32 RX_CLK , 33 RX_D0 , 34 RX_D1 , 35 RX_D2 , 36 RX_D3 , 37 TX_EN/TX_CTRL , 38 RX_DV/RX_CTRL, 39 GPIO_0 , 40 GPIO_1 , 41 VDDIO , 42 VDD1P0 , 43 RESET_N , 44 INT/PWDN , 45 LED_2 , 46 LED_1 , 47 LED_0 , 48 VDDA1P8 , 49 GND 

## DP83867IRPAP_QFP64
designator U?, comment DP83867
Ethernet Transceiver, 10/100/1000, GMII/RGMII/SGMII; MANF: Texas Instruments; MANF_P#: DP83867IRPAP, DP83867IRPAP; PARAM2: 1.8/2.5/3.3VIO,; PRICE: -$; VALUE: DP83867
footprint QFG50_64T (PowerPad PAP (TI) HTQFP 64PIN 10X10mm, Pitch: 0.5mm)
pins: 1 RESERVED, 2 TD_P_A (io), 3 TD_M_A (io), 4 VDDA2P5 (power), 5 TD_P_B (io), 6 TD_M_B (io), 7 RESERVED, 8 VDD1P1 (power), 9 RESERVED, 10 TD_P_C (io), 11 TD_M_C (io), 12 VDDA2P5 (power), 13 TD_P_D (io), 14 TD_M_D (io), 15 RBIAS, 16 RESERVED, 17 VDDA1P8 (power), 18 XO, 19 XI, 20 MDC (in), 21 MDIO (io), 22 CLK_OUT (out), 23 VDDIO (power), 24 JTAG_TRSTN (in), 25 JTAG_CLK (in), 26 JTAG_TDO (out), 27 JTAG_TMS (in), 28 JTAG_TDI (in), 29 VDD1P1 (power), 30 TX_CLK (out), 31 TX_D7 (in), 32 TX_D6 (in), 33 TX_D5 (in), 34 TX_D4 (in), 35 TX_D3 (in), 36 TX_D2 (in), 37 TX_D1 (in), 38 TX_D0 (in), 39 TX_ER (in), 40 GTX_CLK (in), 41 VDDIO (power), 42 VDD1P1 (power), 43 RX_CLK (out), 44 RX_D0 (out), 45 RX_D1 (out), 46 RX_D2 (out), 47 RX_D3 (out), 48 RX_D4/GPIO (io), 49 RX_D5/GPIO (io), 50 RX_D6/GPIO (io), 51 RX_D7/GPIO (io), 52 TX_EN/TX_CTRL (io), 53 RX_DV/RX_CTRL (io), 54 RX_ER/GPIO (io), 55 COL/GPIO (out), 56 CRS/GPIO (io), 57 VDDIO (power), 58 VDD1P1 (power), 59 ~{RESET} (in), 60 INT/PWDN (io), 61 LED_2 (io), 62 LED_1 (io), 63 LED_0 (io), 64 VDDA1P8 (power), 65 GND (power)
text: DP83867IRPAP

## DP83867IS_QFN48
designator U?, comment DP83867IS
Ethernet Transceiver, 10/100/1000, RGMII/SGMII; DESC: DP83867ERGZ -40~105oC; MANF: Texas Instruments; MANF_P#: DP83867ISRGZ; PARAM2: 1.8/2.5/3.3VIO,; PARAM: -40~85oC; PRICE: 9$; VALUE: DP83867IS
footprint QFN50_48T (CP-48 (Analog Device),, MO-220-VKKD-2(JEDEC), RGZ S-PQFP-N48, S-PWQFN-N48(TI), 7X7mm, 0.5mm)
pins: 1 TD_P_A, 2 TD_M_A, 3 VDDA2P5, 4 TD_P_B, 5 TD_M_B, 6 VDDA1P0, 7 TD_P_C, 8 TD_M_C, 9 VDDA2P5, 10 TD_P_D, 11 TD_M_D, 12 RBIAS, 13 VDDA1P8, 14 XO, 15 XI, 16 MDC, 17 MDIO, 18 CLK_OUT, 19 VDDIO, 20 JTAG_CLK, 21 JTAG_TDO, 22 JTAG_TMS, 23 JTAG_TDI, 24 VDD1P0, 25 TX_D3, 26 TX_D2, 27 TX_D1/SGMII_SIP, 28 TX_D0/SGMII_SIN, 29 GTX_CLK, 30 VDDIO, 31 VDD1P0, 32 RX_CLK, 33 RX_D0/SGMII_COP, 34 RX_D1/SGMII_CON, 35 RX_D2/SGMII_SOP, 36 RX_D3/SGMII_SON, 37 TX_CTRL, 38 RX_CTRL, 39 GPIO_0, 40 GPIO_1, 41 VDDIO, 42 VDD1P0, 43 RESET_N, 44 INT/PWDN, 45 LED_2, 46 LED_1, 47 LED_0, 48 VDDA1P8, 49 GND

## ENC28J60_DIP
designator U?, comment ENC28J60
Ethernet Controller, 10/100, MII/RMII; MANF: Microchip; MANF_P#: ENC28J60-I/SP, ENC28J60-C/SP; VALUE: ENC28J60
footprint DIP_28 (DIP, pitch 2.54mm, 300mil Width)
pins: 1 VCAP, 2 VSS, 3 CLKOUT, 4 INT#, 5 NC, 6 SO, 7 SI, 8 SCK, 9 CS#, 10 RESET#, 11 VSSRX, 12 TPIN-, 13 TPIN+, 14 RBIAS, 15 VDDTX, 16 TPOUT-, 17 TPOUT+, 18 VSSTX, 19 VDDRX, 20 VDDPLL, 21 VSSPLL, 22 VSSOSC, 23 OSC1, 24 OSC2, 25 VDDOSC, 26 LEDB, 27 LEDA, 28 VDD

## ENC28J60_QFN
designator U?, comment ENC28J60
Ethernet Controller, 10/100, MII/RMII; MANF: Microchip; MANF_P#: ENC28J60-I/ML, ENC28J60-C/ML; VALUE: ENC28J60
footprint QFN65_28 (Footprint not found)
pins: 1 WOL#, 2 SO, 3 SI, 4 SCK, 5 CS#, 6 RESET#, 7 VSSRX, 8 TPIN-, 9 TPIN+, 10 RBIAS, 11 VDDTX, 12 TPOUT-, 13 TPOUT+, 14 VSSTX, 15 VDDRX, 16 VDDPLL, 17 VSSPLL, 18 VSSOSC, 19 OSC1, 20 OSC2, 21 VDDOSC, 22 LEDB, 23 LEDA, 24 VDD, 25 VCAP, 26 VSS, 27 CLKOUT, 28 INT#

## ENC28J60_SOP
designator U?, comment ENC28J60
Ethernet Controller, 10/100, MII/RMII; MANF: Microchip; MANF_P#: ENC28J60-I/SO, ENC28J60-C/SO; VALUE: ENC28J60
footprint SO_28_W (SOP, SOIC, 7.5mm width, 1.27mm pitch,)
pins: 1 VCAP, 2 VSS, 3 CLKOUT, 4 INT#, 5 NC, 6 SO, 7 SI, 8 SCK, 9 CS#, 10 RESET#, 11 VSSRX, 12 TPIN-, 13 TPIN+, 14 RBIAS, 15 VDDTX, 16 TPOUT-, 17 TPOUT+, 18 VSSTX, 19 VDDRX, 20 VDDPLL, 21 VSSPLL, 22 VSSOSC, 23 OSC1, 24 OSC2, 25 VDDOSC, 26 LEDB, 27 LEDA, 28 VDD

## ENC28J60_SSOP
designator U?, comment ENC28J60
Ethernet Controller, 10/100, MII/RMII; MANF: Microchip; MANF_P#: ENC28J60-I/SS, ENC28J60-C/SS; VALUE: ENC28J60
footprint SOG65_28_W (SOP, 28-Leads, Body 10.6x5.6mm (max), Pitch 0.65mm)
pins: 1 VCAP, 2 VSS, 3 CLKOUT, 4 INT#, 5 NC, 6 SO, 7 SI, 8 SCK, 9 CS#, 10 RESET#, 11 VSSRX, 12 TPIN-, 13 TPIN+, 14 RBIAS, 15 VDDTX, 16 TPOUT-, 17 TPOUT+, 18 VSSTX, 19 VDDRX, 20 VDDPLL, 21 VSSPLL, 22 VSSOSC, 23 OSC1, 24 OSC2, 25 VDDOSC, 26 LEDB, 27 LEDA, 28 VDD

## KS8721BL_QFP48
designator U?, comment KS8721
Ethernet Transceiver, 10/100, MII; MANF: MICREL; MANF_P#: KS8721BL; VALUE: KS8721
footprint QFG50_48 (LQFP48, PQFF, PQFG, TSQFP, 48-Leads, Body 7.00x7.00mm, Pitch 0.50mm)
pins: 1 MDIO, 2 MDC, 3 RXD3/PHYAD1, 4 RXD2/PHYAD2, 5 RXD1/PHYAD3, 6 RXD0/PHYAD4, 7 VDDIO1_2.5/3.3, 8 GND1, 9 RXDV/CRSDV/PCS_LPBK, 10 RXC, 11 RXER/ISO, 12 GND2, 13 VDDC2V5, 14 TXER, 15 TXC/REFCLK, 16 TXEN, 17 TXD0, 18 TXD1, 19 TXD2, 20 TXD3, 21 COL/RMII, 22 CRS/RMII_BTB, 23 GND3, 24 VDDIO2_2.5/3.3, 25 INT/PHYAD0, 26 LED0/TEST, 27 LED1/GPD100/NFEF, 28 LED2/DUPLEX, 29 LED3/NWAYEN, 30 PD#, 31 VDDRX2V5, 32 RX-, 33 RX+, 34 FXGD/FXEN, 35 GND4, 36 GND5, 37 REXT, 38 VREGO2V5, 39 GND6, 40 TX-, 41 TX+, 42 VDDTX2V5, 43 GND7, 44 GND8, 45 X0, 46 X1, 47 VDDPLL2V5, 48 RST#

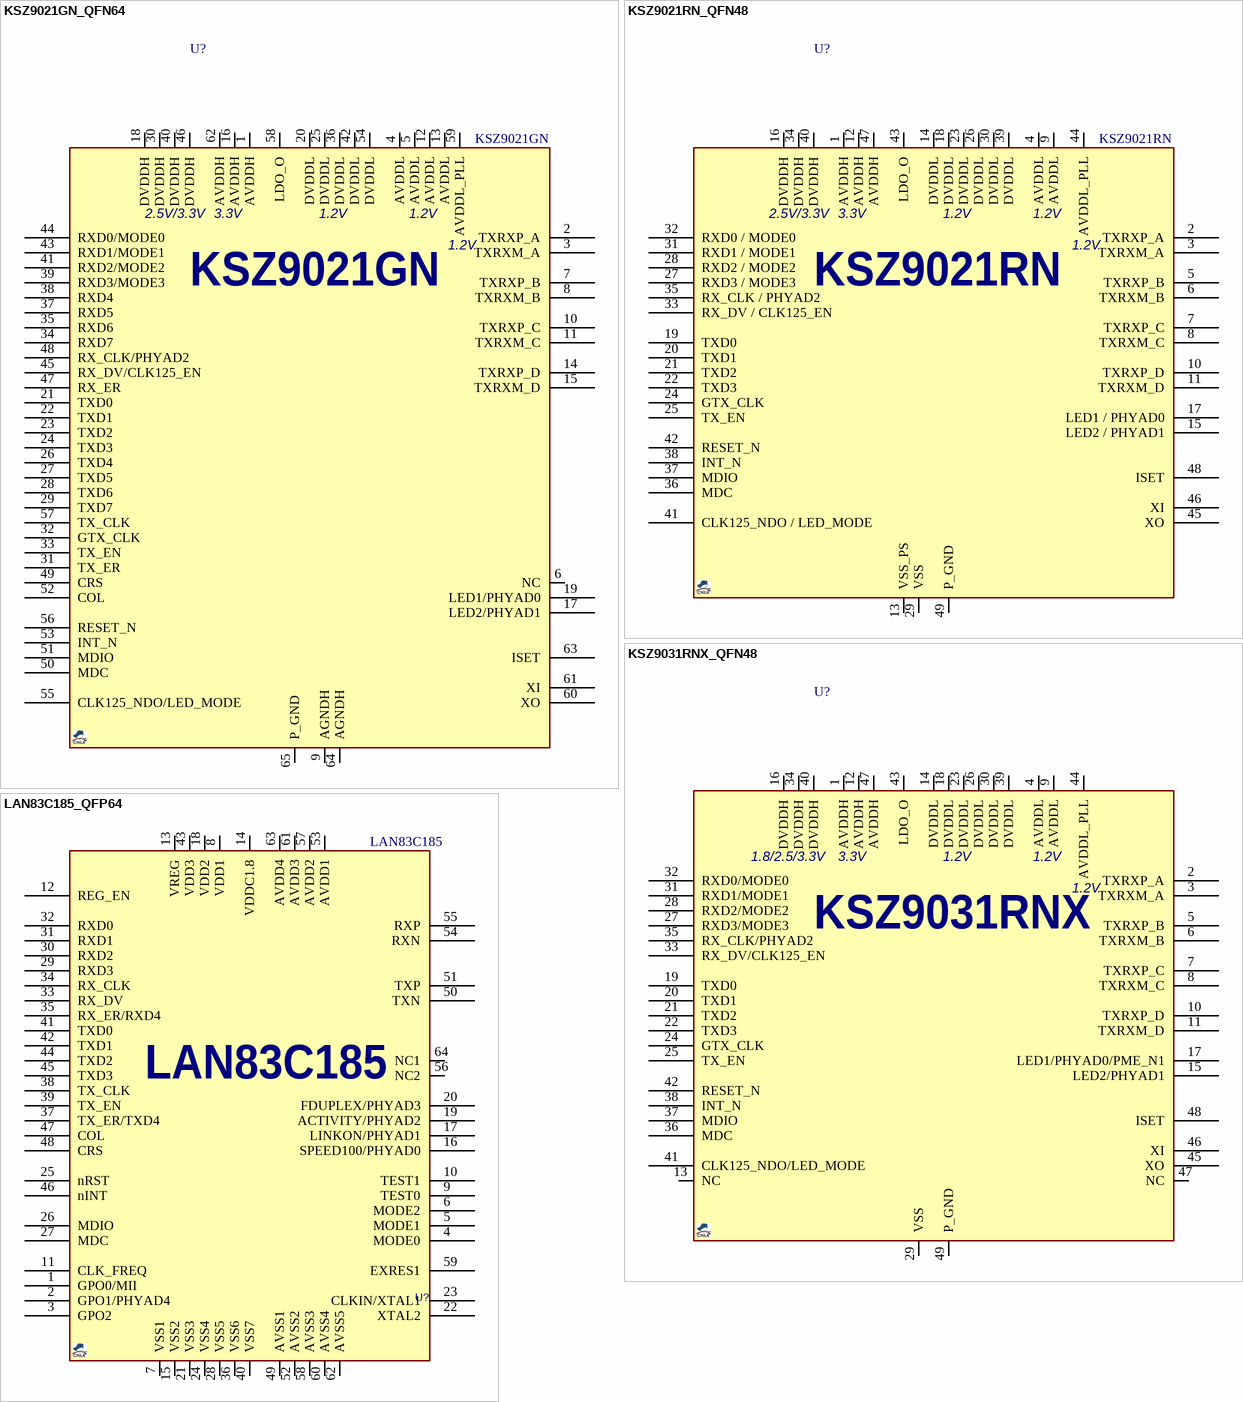
[diagram p6: symbols KSZ9021GN_QFN64 to LAN83C185_QFP64]

## KSZ9021GN_QFN64
designator U?, comment KSZ9021GN
Ethernet Transceiver, 10/100/1000, GMII; MANF: Micrel Inc; MANF_P#: KSZ9021GNI, KSZ9021GN; PARAM2: 3.135 V ~ 3.465 V; PARAM: Gigabit Ethernet, GMII; PRICE: 1=6.85, 10=6.165, 50=5.617, 100=5.069, 250=4.658, 500=4.247, 1000=3.699, 2500=3.562, 5000=3.425 (USD); VALUE: KSZ9021GN
footprint QFN50_64T (LFCSP_VQ, MO-220-VMMD-4, MO-220-WNJR-5(JEDEC), RGC S-PQFP-N64 (TI), 9X9mm, 0.5mm)
pins: 1 AVDDH, 2 TXRXP_A, 3 TXRXM_A, 4 AVDDL, 5 AVDDL, 6 NC, 7 TXRXP_B, 8 TXRXM_B, 9 AGNDH, 10 TXRXP_C, 11 TXRXM_C, 12 AVDDL, 13 AVDDL, 14 TXRXP_D, 15 TXRXM_D, 16 AVDDH, 17 LED2/PHYAD1, 18 DVDDH, 19 LED1/PHYAD0, 20 DVDDL, 21 TXD0, 22 TXD1, 23 TXD2, 24 TXD3, 25 DVDDL, 26 TXD4, 27 TXD5, 28 TXD6, 29 TXD7, 30 DVDDH, 31 TX_ER, 32 GTX_CLK, 33 TX_EN, 34 RXD7, 35 RXD6, 36 DVDDL, 37 RXD5, 38 RXD4, 39 RXD3/MODE3, 40 DVDDH, 41 RXD2/MODE2, 42 DVDDL, 43 RXD1/MODE1, 44 RXD0/MODE0, 45 RX_DV/CLK125_EN, 46 DVDDH, 47 RX_ER, 48 RX_CLK/PHYAD2, 49 CRS, 50 MDC, 51 MDIO, 52 COL, 53 INT_N, 54 DVDDL, 55 CLK125_NDO/LED_MODE, 56 RESET_N, 57 TX_CLK, 58 LDO_O, 59 AVDDL_PLL, 60 XO, 61 XI, 62 AVDDH, 63 ISET, 64 AGNDH, 65 P_GND
text: 2.5V/3.3V; 3.3V; 1.2V

## KSZ9021RN_QFN48
designator U?, comment KSZ9021RN
Ethernet Transceiver, 10/100/1000, RGMII; MANF: Micrel Inc; PARAM2: 2.5/3.3VIO, 1.2@3.3VCC; PARAM: Gigabit Ethernet, 48-VFQFN; MANF_P#: KSZ9021RN; PRICE: 1=6.85, 10=6.165, 50=5.617, 100=5.069, 250=4.658, 500=4.247, 1000=3.699, 2500=3.562, 5000=3.425 (USD); VALUE: KSZ9021RN
footprint QFN50_48T (CP-48 (Analog Device),, MO-220-VKKD-2(JEDEC), RGZ S-PQFP-N48, S-PWQFN-N48(TI), 7X7mm, 0.5mm)
pins: 1 AVDDH, 2 TXRXP_A, 3 TXRXM_A, 4 AVDDL, 5 TXRXP_B, 6 TXRXM_B, 7 TXRXP_C, 8 TXRXM_C, 9 AVDDL, 10 TXRXP_D, 11 TXRXM_D, 12 AVDDH, 13 VSS_PS, 14 DVDDL, 15 LED2 / PHYAD1, 16 DVDDH, 17 LED1 / PHYAD0, 18 DVDDL, 19 TXD0, 20 TXD1, 21 TXD2, 22 TXD3, 23 DVDDL, 24 GTX_CLK, 25 TX_EN, 26 DVDDL, 27 RXD3 / MODE3, 28 RXD2 / MODE2, 29 VSS, 30 DVDDL, 31 RXD1 / MODE1, 32 RXD0 / MODE0, 33 RX_DV / CLK125_EN, 34 DVDDH, 35 RX_CLK / PHYAD2, 36 MDC, 37 MDIO, 38 INT_N, 39 DVDDL, 40 DVDDH, 41 CLK125_NDO / LED_MODE, 42 RESET_N, 43 LDO_O, 44 AVDDL_PLL, 45 XO, 46 XI, 47 AVDDH, 48 ISET, 49 P_GND
text: 2.5V/3.3V; 3.3V; 1.2V

## KSZ9031RNX_QFN48
designator U?, comment KSZ9031RNX  (value not drawn)
Ethernet Transceiver, 10/100/1000, RGMII; DESC: KSZ9031RNXIA (gold bond wire); MANF: Micrel/Microchip; MANF_P#: KSZ9031RNXIC; PARAM2: 1.8/2.5/3.3VIO, 2.5/3.3AVDDH, 1.2Vcore; PARAM: Gigabit Ethernet, 48-VFQFN; PRICE: 4.6$; VALUE: KSZ9031RNX
footprint QFN50_48T (CP-48 (Analog Device),, MO-220-VKKD-2(JEDEC), RGZ S-PQFP-N48, S-PWQFN-N48(TI), 7X7mm, 0.5mm)
pins: 1 AVDDH, 2 TXRXP_A, 3 TXRXM_A, 4 AVDDL, 5 TXRXP_B, 6 TXRXM_B, 7 TXRXP_C, 8 TXRXM_C, 9 AVDDL, 10 TXRXP_D, 11 TXRXM_D, 12 AVDDH, 13 NC, 14 DVDDL, 15 LED2/PHYAD1, 16 DVDDH, 17 LED1/PHYAD0/PME_N1, 18 DVDDL, 19 TXD0, 20 TXD1, 21 TXD2, 22 TXD3, 23 DVDDL, 24 GTX_CLK, 25 TX_EN, 26 DVDDL, 27 RXD3/MODE3, 28 RXD2/MODE2, 29 VSS, 30 DVDDL, 31 RXD1/MODE1, 32 RXD0/MODE0, 33 RX_DV/CLK125_EN, 34 DVDDH, 35 RX_CLK/PHYAD2, 36 MDC, 37 MDIO, 38 INT_N, 39 DVDDL, 40 DVDDH, 41 CLK125_NDO/LED_MODE, 42 RESET_N, 43 LDO_O, 44 AVDDL_PLL, 45 XO, 46 XI, 47 AVDDH, 47 NC, 48 ISET, 49 P_GND
text: 1.8/2.5/3.3V; 3.3V; 1.2V

## LAN83C185_QFP64
designator U?, comment LAN83C185
Ethernet Transceiver, 10/100, MII; MANF: SMSC; MANF_P#: LAN83C185-JD, LAN83C185-JT; VALUE: LAN83C185
footprint QFG50_64 (A64 (CYPRESS), TQFP64, LQFP64, VQ44, VQG44, 10X10mm, Pitch: 0.5mm)
pins: 1 GPO0/MII, 2 GPO1/PHYAD4, 3 GPO2, 4 MODE0, 5 MODE1, 6 MODE2, 7 VSS1, 8 VDD1, 9 TEST0, 10 TEST1, 11 CLK_FREQ, 12 REG_EN, 13 VREG, 14 VDDC1.8, 15 VSS2, 16 SPEED100/PHYAD0, 17 LINKON/PHYAD1, 18 VDD2, 19 ACTIVITY/PHYAD2, 20 FDUPLEX/PHYAD3, 21 VSS3, 22 XTAL2, 23 CLKIN/XTAL1, 24 VSS4, 25 nRST, 26 MDIO, 27 MDC, 28 VSS5, 29 RXD3, 30 RXD2, 31 RXD1, 32 RXD0, 33 RX_DV, 34 RX_CLK, 35 RX_ER/RXD4, 36 VSS6, 37 TX_ER/TXD4, 38 TX_CLK, 39 TX_EN, 40 VSS7, 41 TXD0, 42 TXD1, 43 VDD3, 44 TXD2, 45 TXD3, 46 nINT, 47 COL, 48 CRS, 49 AVSS1, 50 TXN, 51 TXP, 52 AVSS2, 53 AVDD1, 54 RXN, 55 RXP, 56 NC2, 57 AVDD2, 58 AVSS3, 59 EXRES1, 60 AVSS4, 61 AVDD3, 62 AVSS5, 63 AVDD4, 64 NC1

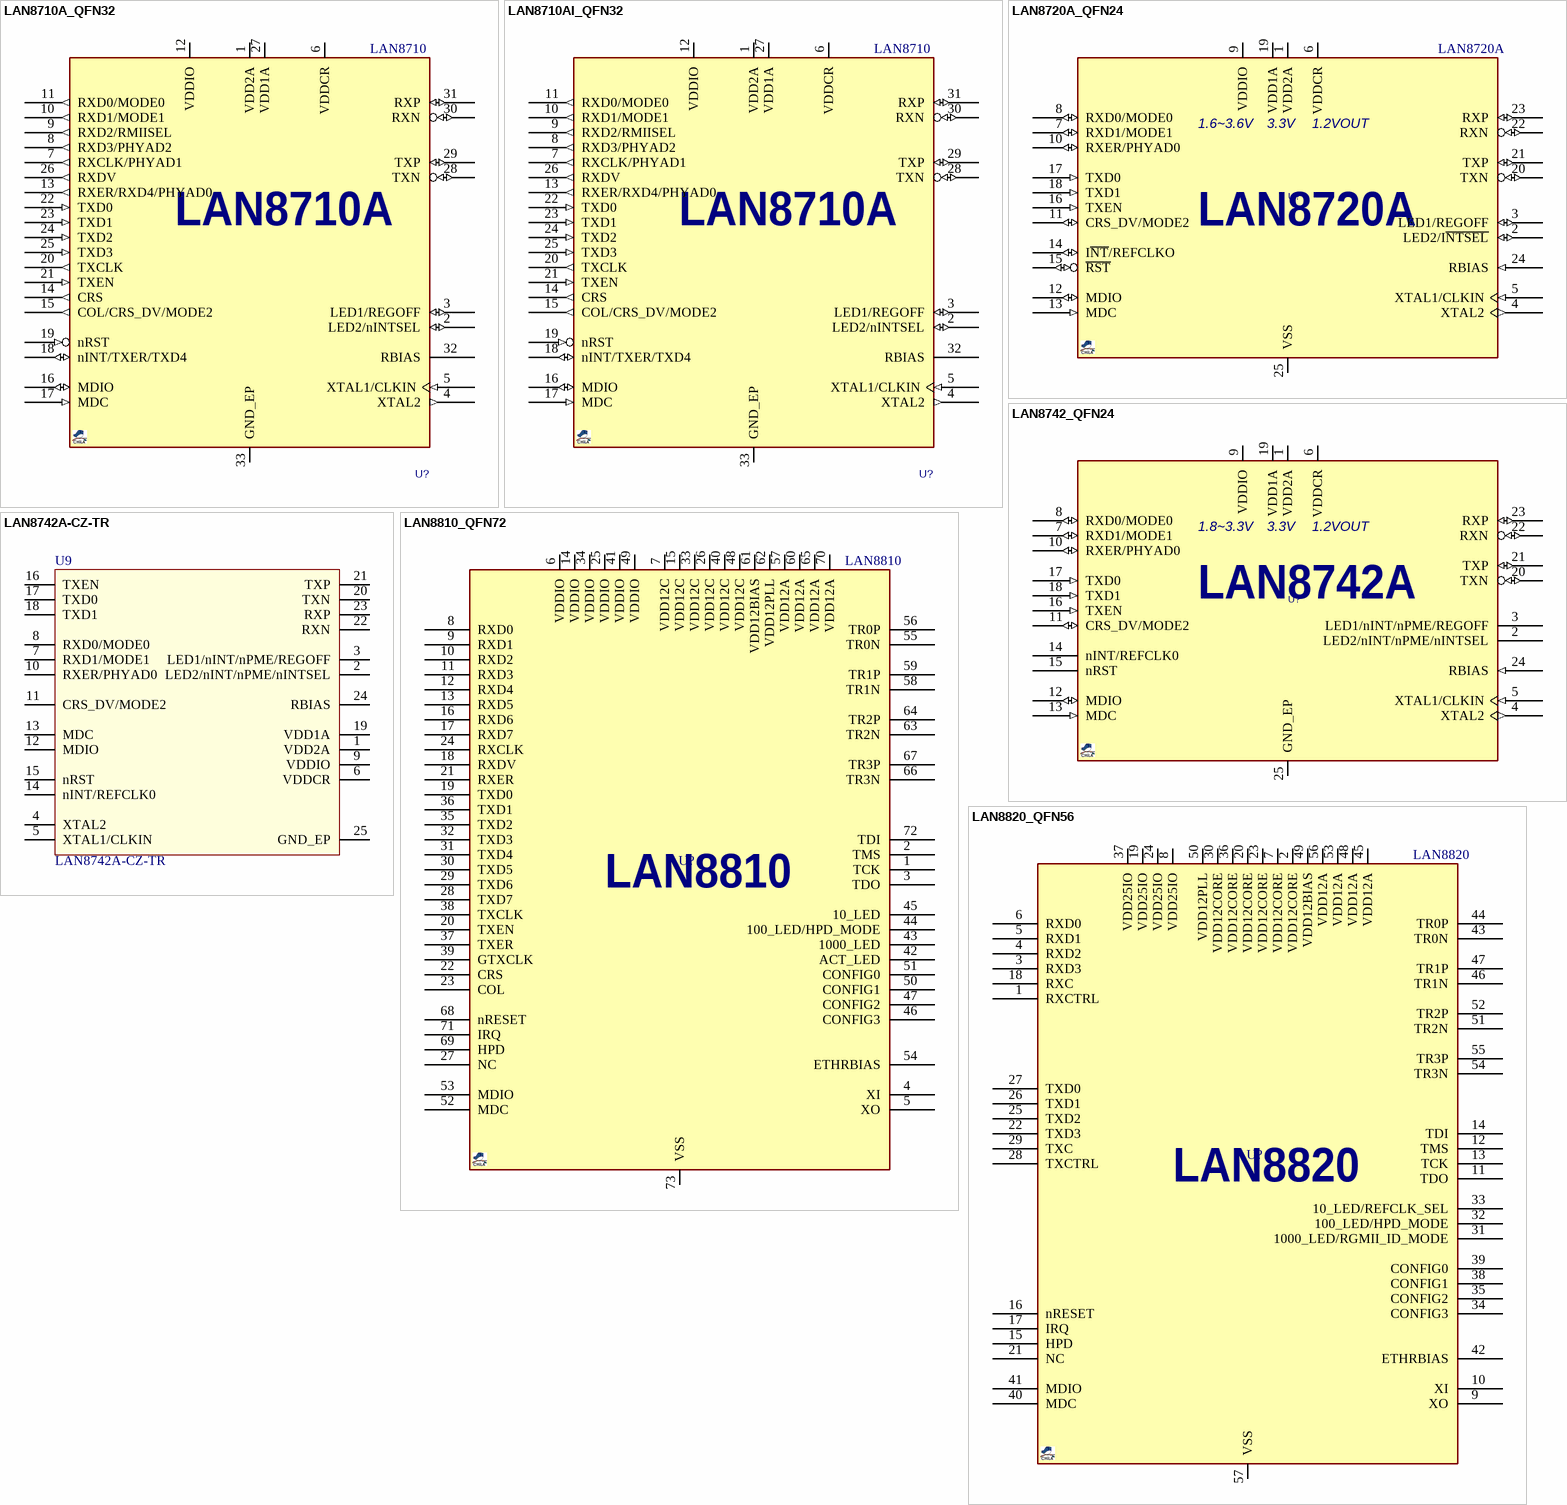
[diagram p7: symbols LAN8710A_QFN32 to LAN8820_QFN56]

## LAN8710A_QFN32
designator U?, comment LAN8710
Ethernet Transceiver, 10/100, MII/RMII/SMI; MANF: SMSC; MANF_P#: LAN8710A-EZK; PARAM2: 3.3Vcc, 1.6~3.6VIO; PARAM: 0~70oC; PRICE: 1.3$; VALUE: LAN8710
footprint QFN50_32T (QFN, 32, 5X5mm, 0.5mm)
pins: 1 VDD2A (power), 2 LED2/nINTSEL (io), 3 LED1/REGOFF (io), 4 XTAL2 (out), 5 XTAL1/CLKIN (in), 6 VDDCR (power), 7 RXCLK/PHYAD1 (out), 8 RXD3/PHYAD2 (out), 9 RXD2/RMIISEL (out), 10 RXD1/MODE1 (out), 11 RXD0/MODE0 (out), 12 VDDIO (power), 13 RXER/RXD4/PHYAD0 (out), 14 CRS (out), 15 COL/CRS_DV/MODE2 (out), 16 MDIO (io), 17 MDC (in), 18 nINT/TXER/TXD4 (io), 19 nRST (in), 20 TXCLK (out), 21 TXEN (in), 22 TXD0 (in), 23 TXD1 (in), 24 TXD2 (in), 25 TXD3 (in), 26 RXDV (out), 27 VDD1A (power), 28 TXN (io), 29 TXP (io), 30 RXN (io), 31 RXP (io), 32 RBIAS, 33 GND_EP (power)
text: LAN8710A

## LAN8710AI_QFN32
designator U?, comment LAN8710
Ethernet Transceiver, 10/100, MII/RMII/SMI; MANF: SMSC; MANF_P#: LAN8710AI-EZK-ABC; PARAM2: 3.3Vcc, 1.6~3.6VIO; PARAM: -40~85oC; PRICE: 1.6$; VALUE: LAN8710
footprint QFN50_32T (QFN, 32, 5X5mm, 0.5mm)
pins: 1 VDD2A (power), 2 LED2/nINTSEL (io), 3 LED1/REGOFF (io), 4 XTAL2 (out), 5 XTAL1/CLKIN (in), 6 VDDCR (power), 7 RXCLK/PHYAD1 (out), 8 RXD3/PHYAD2 (out), 9 RXD2/RMIISEL (out), 10 RXD1/MODE1 (out), 11 RXD0/MODE0 (out), 12 VDDIO (power), 13 RXER/RXD4/PHYAD0 (out), 14 CRS (out), 15 COL/CRS_DV/MODE2 (out), 16 MDIO (io), 17 MDC (in), 18 nINT/TXER/TXD4 (io), 19 nRST (in), 20 TXCLK (out), 21 TXEN (in), 22 TXD0 (in), 23 TXD1 (in), 24 TXD2 (in), 25 TXD3 (in), 26 RXDV (out), 27 VDD1A (power), 28 TXN (io), 29 TXP (io), 30 RXN (io), 31 RXP (io), 32 RBIAS, 33 GND_EP (power)
text: LAN8710A

## LAN8720A_QFN24
designator U?, comment LAN8720A
Ethernet Transceiver, 10/100, RMII, 1.6-3.6V QFN24; MANF: SMSC; MANF_P#: LAN8720A-CP-TR; PARAM2: 1.6-3.6V; VALUE: LAN8720A
footprint QFN50_24T (MO-220 (JEDEC), RGE S-PQFP-N24 (TI), 4X4mm, 0.5mm, HVQFN24)
pins: 1 VDD2A (power), 2 LED2/I~{NTSEL} (io), 3 LED1/REGOFF (io), 4 XTAL2 (out), 5 XTAL1/CLKIN (in), 6 VDDCR (power), 7 RXD1/MODE1 (io), 8 RXD0/MODE0 (io), 9 VDDIO (power), 10 RXER/PHYAD0 (io), 11 CRS_DV/MODE2 (io), 12 MDIO (io), 13 MDC (in), 14 I~{NT}/REFCLKO (io), 15 ~{RST} (io), 16 TXEN (in), 17 TXD0 (in), 18 TXD1 (in), 19 VDD1A (power), 20 TXN (io), 21 TXP (io), 22 RXN (io), 23 RXP (io), 24 RBIAS (in), 25 VSS (power)
text: 1.6~3.6V; 3.3V; 1.2VOUT

## LAN8742_QFN24
designator U?, comment LAN8742A  (value not drawn)
Ethernet Transceiver, 10/100, RMII, 1.6-3.6V QFN24; MANF: SMSC, MICROCHIP; MANF_P#: LAN8742AI-CZ; PARAM2: 1.8-3.6VIO, 1.2VCORE, 3.3VDDA; PARAM: -40~85oC; PRICE: 1.5$; VALUE: LAN8742A
footprint QFN50_24T (MO-220 (JEDEC), RGE S-PQFP-N24 (TI), 4X4mm, 0.5mm, HVQFN24)
pins: 1 VDD2A (power), 2 LED2/nINT/nPME/nINTSEL, 3 LED1/nINT/nPME/REGOFF, 4 XTAL2 (out), 5 XTAL1/CLKIN (in), 6 VDDCR (power), 7 RXD1/MODE1 (io), 8 RXD0/MODE0 (io), 9 VDDIO (power), 10 RXER/PHYAD0 (io), 11 CRS_DV/MODE2 (io), 12 MDIO (io), 13 MDC (in), 14 nINT/REFCLK0, 15 nRST, 16 TXEN (in), 17 TXD0 (in), 18 TXD1 (in), 19 VDD1A (power), 20 TXN (io), 21 TXP (io), 22 RXN (io), 23 RXP (io), 24 RBIAS (in), 25 GND_EP (power)
text: 1.8~3.3V; 3.3V; 1.2VOUT

## LAN8742A-CZ-TR
designator U9
LAN8742A-CZ-TR - Small Footprint RMII 10/100 Ethernet, Transceiver with HP Auto-MDIX and flexPWR Technology SQFN-24; Manuf_1: MICROCHIP; Order: LAN8742A-CZ-TR; Manuf_Part_1: LAN8742A-CZ-TR; Distrib: MICROCHIP
footprint QFN24_0R5_4X4 (Footprint not found)
pins: 1 VDD2A, 2 LED2/nINT/nPME/nINTSEL, 3 LED1/nINT/nPME/REGOFF, 4 XTAL2, 5 XTAL1/CLKIN, 6 VDDCR, 7 RXD1/MODE1, 8 RXD0/MODE0, 9 VDDIO, 10 RXER/PHYAD0, 11 CRS_DV/MODE2, 12 MDIO, 13 MDC, 14 nINT/REFCLK0, 15 nRST, 16 TXEN, 17 TXD0, 18 TXD1, 19 VDD1A, 20 TXN, 21 TXP, 22 RXN, 23 RXP, 24 RBIAS, 25 GND_EP

## LAN8810_QFN72
designator U?, comment LAN8810
Ethernet Transceiver, Gigabit, 10/100/1000, GMII; MANF: MARVELL; MANF_P#: LAN8810i-AKZE, LAN8810-AKZE; PARAM2: 2.5/3.3VIO, 1~1.2DVDD; PARAM: 10/100/1000, GMII; PRICE: -$; VALUE: LAN8810
footprint QFN50_72T (QFN, 72-Leads, Body 10x10mm, Pitch 0.5mm)
pins: 1 TCK, 2 TMS, 3 TDO, 4 XI, 5 XO, 6 VDDIO, 7 VDD12C, 8 RXD0, 9 RXD1, 10 RXD2, 11 RXD3, 12 RXD4, 13 RXD5, 14 VDDIO, 15 VDD12C, 16 RXD6, 17 RXD7, 18 RXDV, 19 TXD0, 20 TXEN, 21 RXER, 22 CRS, 23 COL, 24 RXCLK, 25 VDDIO, 26 VDD12C, 27 NC, 28 TXD7, 29 TXD6, 30 TXD5, 31 TXD4, 32 TXD3, 33 VDD12C, 34 VDDIO, 35 TXD2, 36 TXD1, 37 TXER, 38 TXCLK, 39 GTXCLK, 40 VDD12C, 41 VDDIO, 42 ACT_LED, 43 1000_LED, 44 100_LED/HPD_MODE, 45 10_LED, 46 CONFIG3, 47 CONFIG2, 48 VDD12C, 49 VDDIO, 50 CONFIG1, 51 CONFIG0, 52 MDC, 53 MDIO, 54 ETHRBIAS, 55 TR0N, 56 TR0P, 57 VDD12A, 58 TR1N, 59 TR1P, 60 VDD12A, 61 VDD12BIAS, 62 VDD12PLL, 63 TR2N, 64 TR2P, 65 VDD12A, 66 TR3N, 67 TR3P, 68 nRESET, 69 HPD, 70 VDD12A, 71 IRQ, 72 TDI, 73 VSS

## LAN8820_QFN56
designator U?, comment LAN8820
Ethernet Transceiver, Gigabit, 10/100/1000, RGMII; MANF: MARVELL; MANF_P#: LAN8820i-ABZJ, LAN8820-ABZJ; PARAM2: 2.5VIO, 1~1.2DVDD; PARAM: 10/100/1000, RGMII; PRICE: -$; VALUE: LAN8820
footprint QFN50_56T (QFN56, pitch: 0.5mm, 8x8mm)
pins: 1 RXCTRL, 2 VDD12CORE, 3 RXD3, 4 RXD2, 5 RXD1, 6 RXD0, 7 VDD12CORE, 8 VDD25IO, 9 XO, 10 XI, 11 TDO, 12 TMS, 13 TCK, 14 TDI, 15 HPD, 16 nRESET, 17 IRQ, 18 RXC, 19 VDD25IO, 20 VDD12CORE, 21 NC, 22 TXD3, 23 VDD12CORE, 24 VDD25IO, 25 TXD2, 26 TXD1, 27 TXD0, 28 TXCTRL, 29 TXC, 30 VDD12CORE, 31 1000_LED/RGMII_ID_MODE, 32 100_LED/HPD_MODE, 33 10_LED/REFCLK_SEL, 34 CONFIG3, 35 CONFIG2, 36 VDD12CORE, 37 VDD25IO, 38 CONFIG1, 39 CONFIG0, 40 MDC, 41 MDIO, 42 ETHRBIAS, 43 TR0N, 44 TR0P, 45 VDD12A, 46 TR1N, 47 TR1P, 48 VDD12A, 49 VDD12BIAS, 50 VDD12PLL, 51 TR2N, 52 TR2P, 53 VDD12A, 54 TR3N, 55 TR3P, 56 VDD12A, 57 VSS

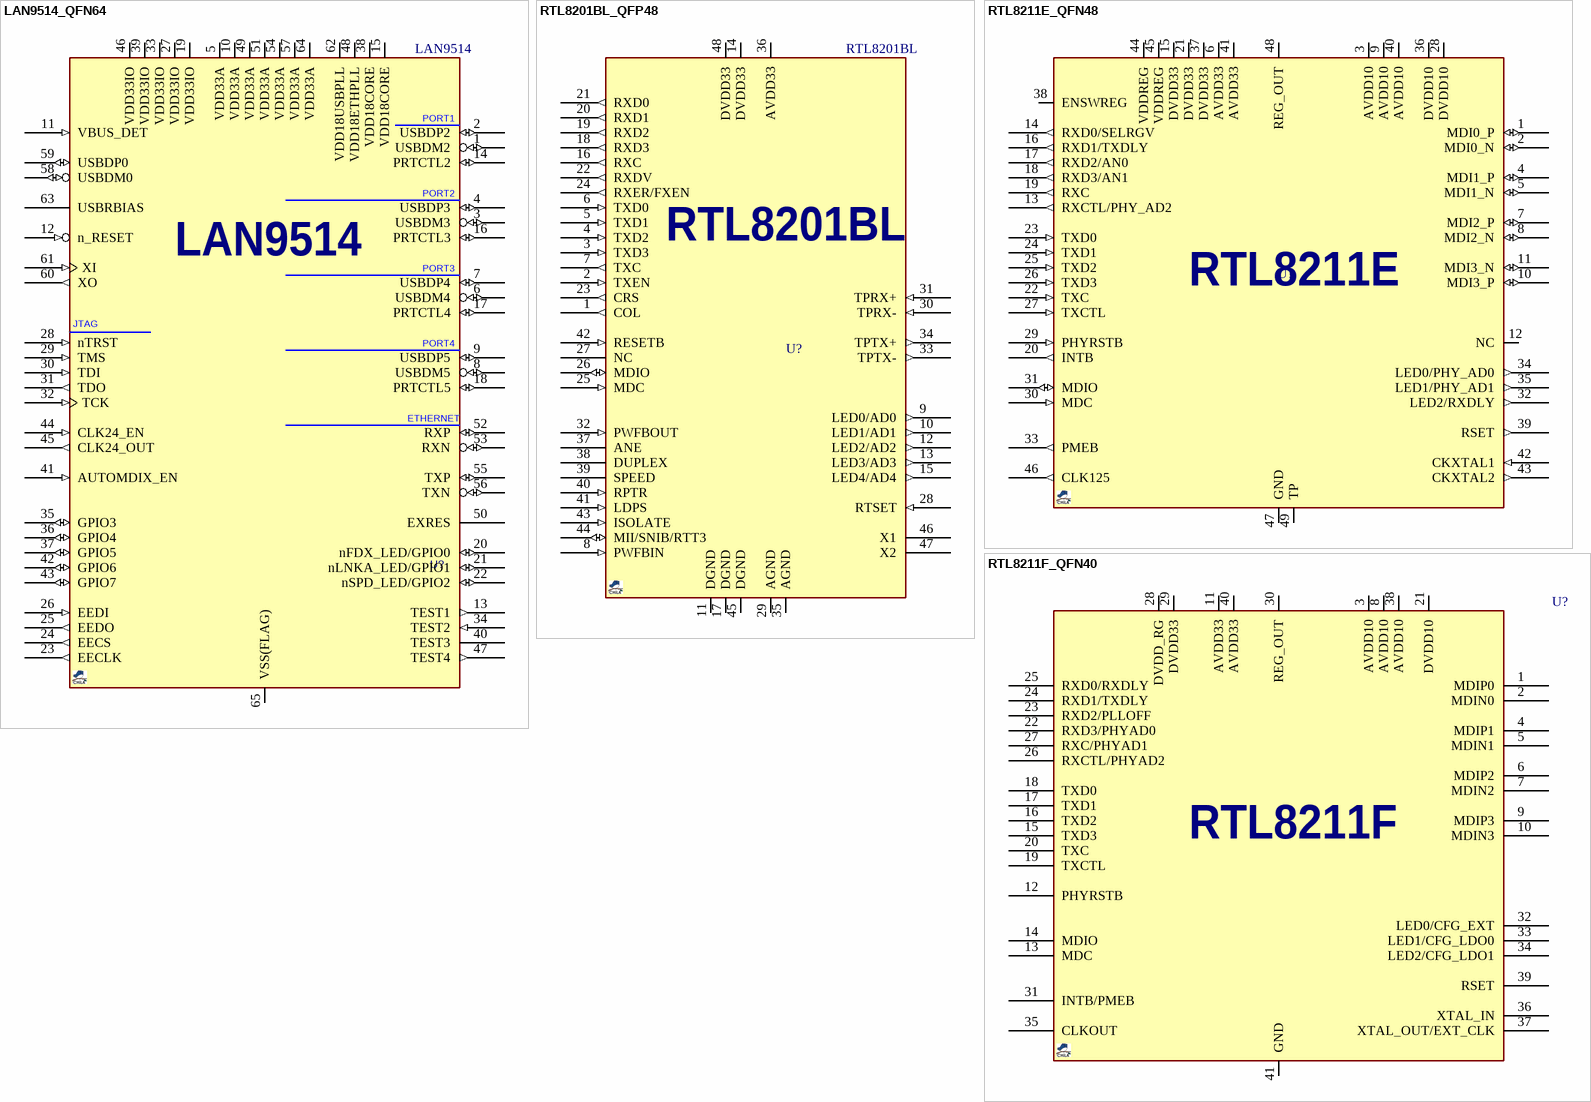
[diagram p8: symbols LAN9514_QFN64 to RTL8211F_QFN40]

## LAN9514_QFN64
designator U?, comment LAN9514
Ethernet Transceiver, 10/100, MII +USB2.0HUB; MANF: SMSC; MANF_P#: LAN9514i-JZX, LAN9514-JZX; VALUE: LAN9514
footprint QFN50_64T (LFCSP_VQ, MO-220-VMMD-4, MO-220-WNJR-5(JEDEC), RGC S-PQFP-N64 (TI), 9X9mm, 0.5mm)
pins: 1 USBDM2 (io), 2 USBDP2 (io), 3 USBDM3 (io), 4 USBDP3 (io), 5 VDD33A (power), 6 USBDM4 (io), 7 USBDP4 (io), 8 USBDM5 (io), 9 USBDP5 (io), 10 VDD33A (power), 11 VBUS_DET (in), 12 n_RESET (in), 13 TEST1 (out), 14 PRTCTL2 (io), 15 VDD18CORE (power), 16 PRTCTL3 (io), 17 PRTCTL4 (io), 18 PRTCTL5 (io), 19 VDD33IO (power), 20 nFDX_LED/GPIO0 (io), 21 nLNKA_LED/GPIO1 (io), 22 nSPD_LED/GPIO2 (io), 23 EECLK (out), 24 EECS (out), 25 EEDO (out), 26 EEDI (in), 27 VDD33IO (power), 28 nTRST (in), 29 TMS (in), 30 TDI (in), 31 TDO (out), 32 TCK (in), 33 VDD33IO (power), 34 TEST2 (in), 35 GPIO3 (io), 36 GPIO4 (io), 37 GPIO5 (io), 38 VDD18CORE (power), 39 VDD33IO (power), 40 TEST3 (power), 41 AUTOMDIX_EN (in), 42 GPIO6 (io), 43 GPIO7 (io), 44 CLK24_EN (in), 45 CLK24_OUT (out), 46 VDD33IO (power), 47 TEST4 (out), 48 VDD18ETHPLL (power), 49 VDD33A (power), 50 EXRES, 51 VDD33A (power), 52 RXP (io), 53 RXN (io), 54 VDD33A (power), 55 TXP (io), 56 TXN (io), 57 VDD33A (power), 58 USBDM0 (io), 59 USBDP0 (io), 60 XO (out), 61 XI (in), 62 VDD18USBPLL (power), 63 USBRBIAS, 64 VDD33A (power), 65 VSS(FLAG) (power)
text: PORT1; PORT2; PORT3; JTAG; PORT4; ETHERNET

## RTL8201BL_QFP48
designator U?, comment RTL8201BL
Ethernet Transceiver, 10/100, MII; MANF: Realtek; MANF_P#: RTL8201BL; VALUE: RTL8201BL
footprint QFG50_48 (LQFP48, PQFF, PQFG, TSQFP, 48-Leads, Body 7.00x7.00mm, Pitch 0.50mm)
pins: 1 COL (out), 2 TXEN (in), 3 TXD3 (in), 4 TXD2 (in), 5 TXD1 (in), 6 TXD0 (in), 7 TXC (out), 8 PWFBIN (in), 9 LED0/AD0 (out), 10 LED1/AD1 (out), 11 DGND (power), 12 LED2/AD2 (out), 13 LED3/AD3 (out), 14 DVDD33 (power), 15 LED4/AD4 (out), 16 RXC (out), 17 DGND (power), 18 RXD3 (out), 19 RXD2 (out), 20 RXD1 (out), 21 RXD0 (out), 22 RXDV (out), 23 CRS (out), 24 RXER/FXEN (out), 25 MDC (in), 26 MDIO (io), 27 NC (power), 28 RTSET (in), 29 AGND (power), 30 TPRX- (in), 31 TPRX+ (in), 32 PWFBOUT (in), 33 TPTX- (out), 34 TPTX+ (out), 35 AGND (power), 36 AVDD33 (power), 37 ANE (power), 38 DUPLEX (power), 39 SPEED (power), 40 RPTR (in), 41 LDPS (in), 42 RESETB (in), 43 ISOLATE (in), 44 MII/SNIB/RTT3 (io), 45 DGND (power), 46 X1, 47 X2, 48 DVDD33 (power)

## RTL8211E_QFN48
designator U?, comment RTL8211E
Ethernet Transceiver, 10/100/1000, RGMII; DESC: RTL8211E-VL; MANF: Realtek; MANF_P#: RTL8211E-VB-CG; PARAM2: 2.5VIO (3.3V TOL), 3.3&1.8&1.2; PARAM: 0~65oC; PRICE: 2$; VALUE: RTL8211E
footprint QFN40_48T (QFN, 48-Leads, Body 6.00x6.00mm, Pitch 0.40mm, Thermal Pad 4.40x4.40mm)
pins: 1 MDI0_P (io), 2 MDI0_N (io), 3 AVDD10 (power), 4 MDI1_P (io), 5 MDI1_N (io), 6 AVDD33 (power), 7 MDI2_P (io), 8 MDI2_N (io), 9 AVDD10 (power), 10 MDI3_P (io), 11 MDI3_N (io), 12 NC, 13 RXCTL/PHY_AD2 (out), 14 RXD0/SELRGV (out), 15 DVDD33 (power), 16 RXD1/TXDLY (out), 17 RXD2/AN0 (out), 18 RXD3/AN1 (out), 19 RXC (out), 20 INTB (out), 21 DVDD33 (power), 22 TXC (in), 23 TXD0 (in), 24 TXD1 (in), 25 TXD2 (in), 26 TXD3 (in), 27 TXCTL (in), 28 DVDD10 (power), 29 PHYRSTB (in), 30 MDC (in), 31 MDIO (io), 32 LED2/RXDLY (out), 33 PMEB (out), 34 LED0/PHY_AD0 (out), 35 LED1/PHY_AD1 (out), 36 DVDD10 (power), 37 DVDD33 (power), 38 ENSWREG (power), 39 RSET (out), 40 AVDD10 (power), 41 AVDD33 (power), 42 CKXTAL1 (in), 43 CKXTAL2 (out), 44 VDDREG (power), 45 VDDREG (power), 46 CLK125 (out), 47 GND (power), 48 REG_OUT (power), 49 TP (power)

## RTL8211F_QFN40
designator U?, comment RTL8211F  (value not drawn)
Ethernet Transceiver, 10/100/1000, RGMII; PARAM2: 2.5VIO (3.3V TOL), 3.3&1.8&1.2; PARAM: 0~65oC; MANF_P#: RTL8211FI-CG; MANF: Realtek; PRICE: 2$; DESC: RTL8211FI-CG; ASSEMBLY: *; VALUE: RTL8211F
footprint QFN40_40T (40 TQFN-EP (maxim), 5X5mm, 0.4mm)
pins: 1 MDIP0, 2 MDIN0, 3 AVDD10, 4 MDIP1, 5 MDIN1, 6 MDIP2, 7 MDIN2, 8 AVDD10, 9 MDIP3, 10 MDIN3, 11 AVDD33, 12 PHYRSTB, 13 MDC, 14 MDIO, 15 TXD3, 16 TXD2, 17 TXD1, 18 TXD0, 19 TXCTL, 20 TXC, 21 DVDD10, 22 RXD3/PHYAD0, 23 RXD2/PLLOFF, 24 RXD1/TXDLY, 25 RXD0/RXDLY, 26 RXCTL/PHYAD2, 27 RXC/PHYAD1, 28 DVDD_RG, 29 DVDD33, 30 REG_OUT, 31 INTB/PMEB, 32 LED0/CFG_EXT, 33 LED1/CFG_LDO0, 34 LED2/CFG_LDO1, 35 CLKOUT, 36 XTAL_IN, 37 XTAL_OUT/EXT_CLK, 38 AVDD10, 39 RSET, 40 AVDD33, 41 GND

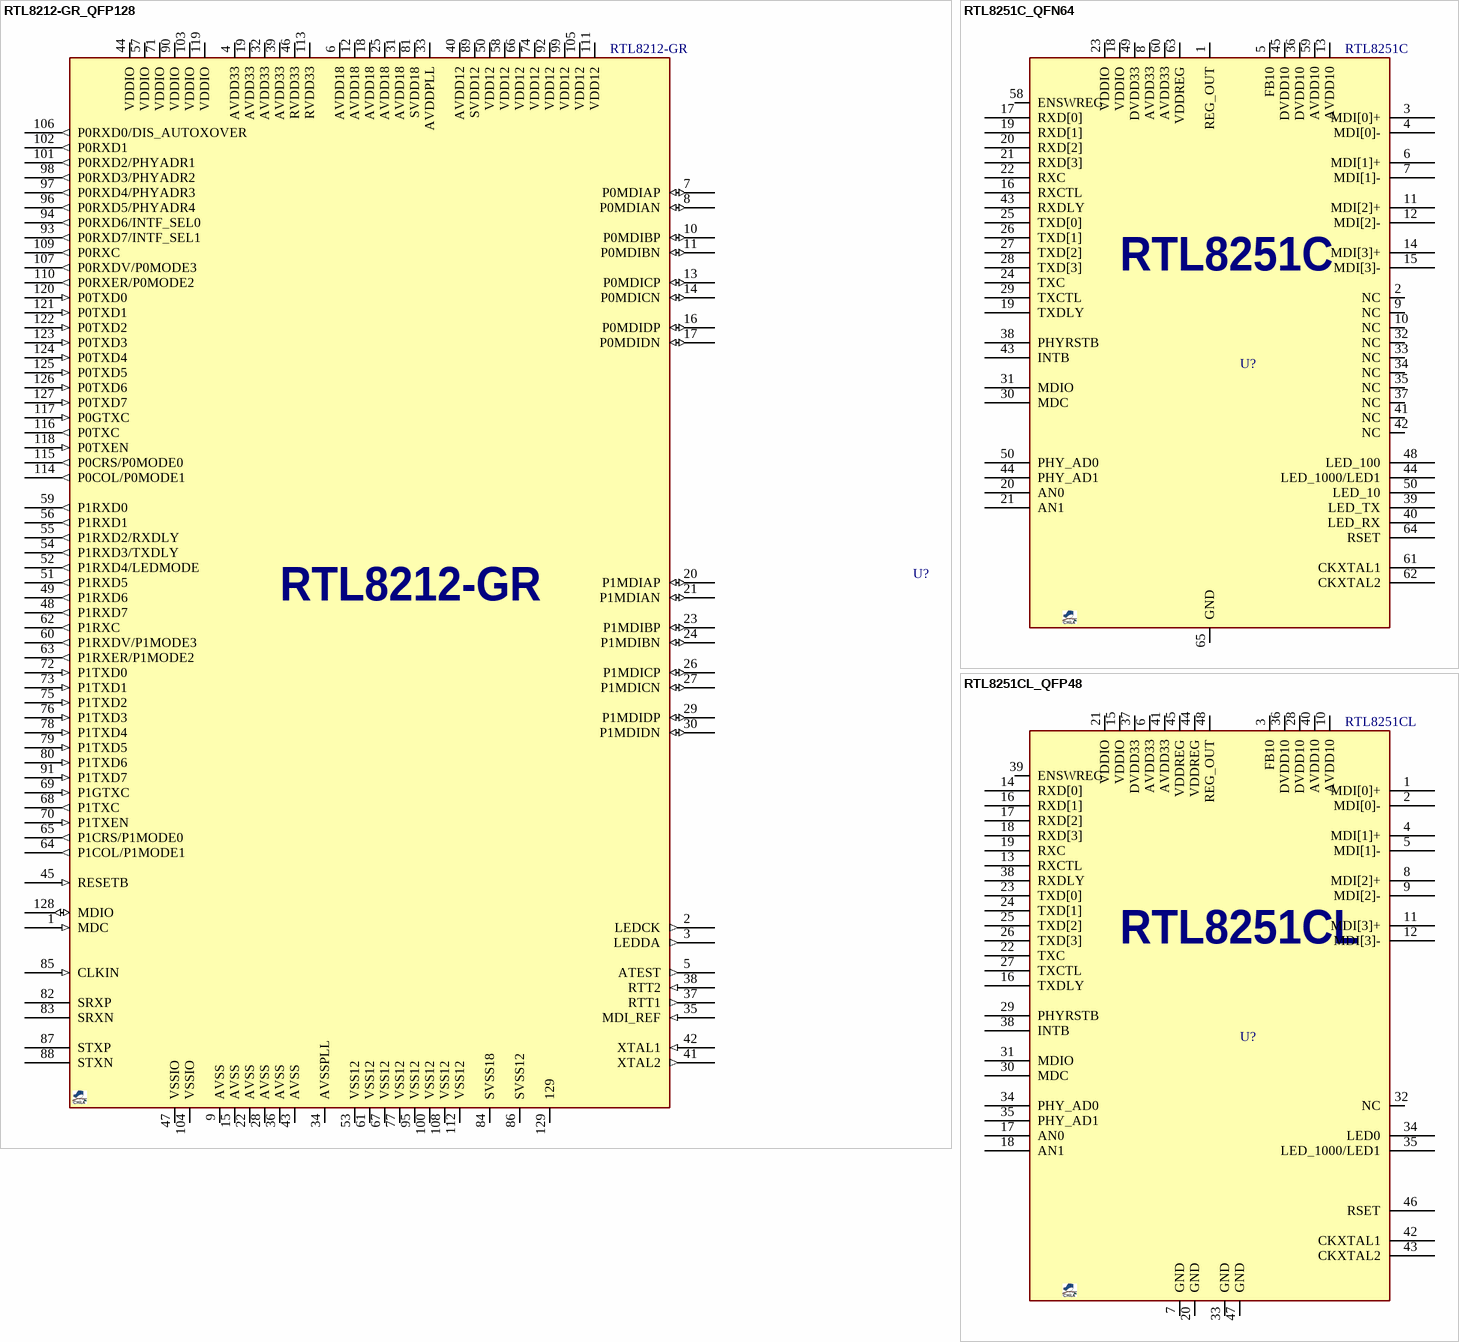
[diagram p9: symbols RTL8212-GR_QFP128 to RTL8251CL_QFP48]

## RTL8212-GR_QFP128
designator U?, comment RTL8212-GR
Ethernet Transceiver, DUAL 10/100/1000, GMII/RGMII; MANF: Realtek; MANF_P#: RTL8212-GR; VALUE: RTL8212-GR
footprint QFG50_128T (128-Leads, Body 20X14mm, Pitch 0.50mm)
pins: 1 MDC (in), 2 LEDCK (out), 3 LEDDA (out), 4 AVDD33 (power), 5 ATEST (out), 6 AVDD18 (power), 7 P0MDIAP (io), 8 P0MDIAN (io), 9 AVSS (power), 10 P0MDIBP (io), 11 P0MDIBN (io), 12 AVDD18 (power), 13 P0MDICP (io), 14 P0MDICN (io), 15 AVSS (power), 16 P0MDIDP (io), 17 P0MDIDN (io), 18 AVDD18 (power), 19 AVDD33 (power), 20 P1MDIAP (io), 21 P1MDIAN (io), 22 AVSS (power), 23 P1MDIBP (io), 24 P1MDIBN (io), 25 AVDD18 (power), 26 P1MDICP (io), 27 P1MDICN (io), 28 AVSS (power), 29 P1MDIDP (io), 30 P1MDIDN (io), 31 AVDD18 (power), 32 AVDD33 (power), 33 AVDDPLL (power), 34 AVSSPLL (power), 35 MDI_REF (in), 36 AVSS (power), 37 RTT1 (out), 38 RTT2 (in), 39 AVDD33 (power), 40 AVDD12 (power), 41 XTAL2 (out), 42 XTAL1 (in), 43 AVSS (power), 44 VDDIO (power), 45 RESETB (in), 46 RVDD33 (power), 47 VSSIO (power), 48 P1RXD7 (out), 49 P1RXD6 (out), 50 VDD12 (power), 51 P1RXD5 (out), 52 P1RXD4/LEDMODE (out), 53 VSS12 (power), 54 P1RXD3/TXDLY (out), 55 P1RXD2/RXDLY (out), 56 P1RXD1 (out), 57 VDDIO (power), 58 VDD12 (power), 59 P1RXD0 (out), 60 P1RXDV/P1MODE3 (out), 61 VSS12 (power), 62 P1RXC (out), 63 P1RXER/P1MODE2 (out), 64 P1COL/P1MODE1 (out), 65 P1CRS/P1MODE0 (out), 66 VDD12 (power), 67 VSS12 (power), 68 P1TXC (out), 69 P1GTXC (in), 70 P1TXEN (in), 71 VDDIO (power), 72 P1TXD0 (in), 73 P1TXD1 (in), 74 VDD12 (power), 75 P1TXD2 (in), 76 P1TXD3 (in), 77 VSS12 (power), 78 P1TXD4 (in), 79 P1TXD5 (in), 80 P1TXD6 (in), 81 SVDD18 (power), 82 SRXP, 83 SRXN, 84 SVSS18 (power), 85 CLKIN (in), 86 SVSS12 (power), 87 STXP, 88 STXN, 89 SVDD12 (power), 90 VDDIO (power), 91 P1TXD7 (in), 92 VDD12 (power), 93 P0RXD7/INTF_SEL1 (out), 94 P0RXD6/INTF_SEL0 (out), 95 VSS12 (power), 96 P0RXD5/PHYADR4 (out), 97 P0RXD4/PHYADR3 (out), 98 P0RXD3/PHYADR2 (out), 99 VDD12 (power), 100 VSS12 (power), 101 P0RXD2/PHYADR1 (out), 102 P0RXD1 (out), 103 VDDIO (power), 104 VSSIO (power), 105 VDD12 (power), 106 P0RXD0/DIS_AUTOXOVER (out), 107 P0RXDV/P0MODE3 (out), 108 VSS12 (power), 109 P0RXC (out), 110 P0RXER/P0MODE2 (out), 111 VDD12 (power), 112 VSS12 (power), 113 RVDD33 (power), 114 P0COL/P0MODE1 (out), 115 P0CRS/P0MODE0 (out), 116 P0TXC (out), 117 P0GTXC (in), 118 P0TXEN (in), 119 VDDIO (power), 120 P0TXD0 (in), 121 P0TXD1 (in), 122 P0TXD2 (in), 123 P0TXD3 (in), 124 P0TXD4 (in), 125 P0TXD5 (in), 126 P0TXD6 (in), 127 P0TXD7 (in), 128 MDIO (io), 129

## RTL8251C_QFN64
designator U?, comment RTL8251C
Ethernet Transceiver, 10/100/1000, RGMII; MANF: Realtek; MANF_P#: RTL8251C-GR; PARAM2: 3.3/2.5VIO, 3.3&1.2VCC; PARAM: 0~70oC; VALUE: RTL8251C
footprint QFN50_64T (LFCSP_VQ, MO-220-VMMD-4, MO-220-WNJR-5(JEDEC), RGC S-PQFP-N64 (TI), 9X9mm, 0.5mm)
pins: 1 REG_OUT, 2 NC, 3 MDI[0]+, 4 MDI[0]-, 5 FB10, 6 MDI[1]+, 7 MDI[1]-, 8 AVDD33, 9 NC, 10 NC, 11 MDI[2]+, 12 MDI[2]-, 13 AVDD10, 14 MDI[3]+, 15 MDI[3]-, 16 RXCTL, 17 RXD[0], 18 VDDIO, 19 RXD[1], 19 TXDLY, 20 RXD[2], 20 AN0, 21 RXD[3], 21 AN1, 22 RXC, 23 VDDIO, 24 TXC, 25 TXD[0], 26 TXD[1], 27 TXD[2], 28 TXD[3], 29 TXCTL, 30 MDC, 31 MDIO, 32 NC, 33 NC, 34 NC, 35 NC, 36 DVDD10, 37 NC, 38 PHYRSTB, 39 LED_TX, 40 LED_RX, 41 NC, 42 NC, 43 RXDLY, 43 INTB, 44 PHY_AD1, 44 LED_1000/LED1, 45 DVDD10, 48 LED_100, 49 DVDD33, 50 PHY_AD0, 50 LED_10, 58 ENSWREG, 59 AVDD10, 60 AVDD33, 61 CKXTAL1, 62 CKXTAL2, 63 VDDREG, 64 RSET, 65 GND

## RTL8251CL_QFP48
designator U?, comment RTL8251CL
Ethernet Transceiver, 10/100/1000, RGMII; MANF: Realtek; MANF_P#: RTL8251CL-GR; PARAM2: 3.3/2.5VIO, 3.3&1.2VCC; PARAM: 0~70oC; VALUE: RTL8251CL
footprint QFG50_48 (LQFP48, PQFF, PQFG, TSQFP, 48-Leads, Body 7.00x7.00mm, Pitch 0.50mm)
pins: 1 MDI[0]+, 2 MDI[0]-, 3 FB10, 4 MDI[1]+, 5 MDI[1]-, 6 AVDD33, 7 GND, 8 MDI[2]+, 9 MDI[2]-, 10 AVDD10, 11 MDI[3]+, 12 MDI[3]-, 13 RXCTL, 14 RXD[0], 15 VDDIO, 16 RXD[1], 16 TXDLY, 17 RXD[2], 17 AN0, 18 RXD[3], 18 AN1, 19 RXC, 20 GND, 21 VDDIO, 22 TXC, 23 TXD[0], 24 TXD[1], 25 TXD[2], 26 TXD[3], 27 TXCTL, 28 DVDD10, 29 PHYRSTB, 30 MDC, 31 MDIO, 32 NC, 33 GND, 34 LED0, 34 PHY_AD0, 35 PHY_AD1, 35 LED_1000/LED1, 36 DVDD10, 37 DVDD33, 38 RXDLY, 38 INTB, 39 ENSWREG, 40 AVDD10, 41 AVDD33, 42 CKXTAL1, 43 CKXTAL2, 44 VDDREG, 45 VDDREG, 46 RSET, 47 GND, 48 REG_OUT